# Altium schematic symbol library Connector.SchLib: 263 symbols (part 1 of 2)
Pins are listed as number, name and electrical type; pins without a type are passive.

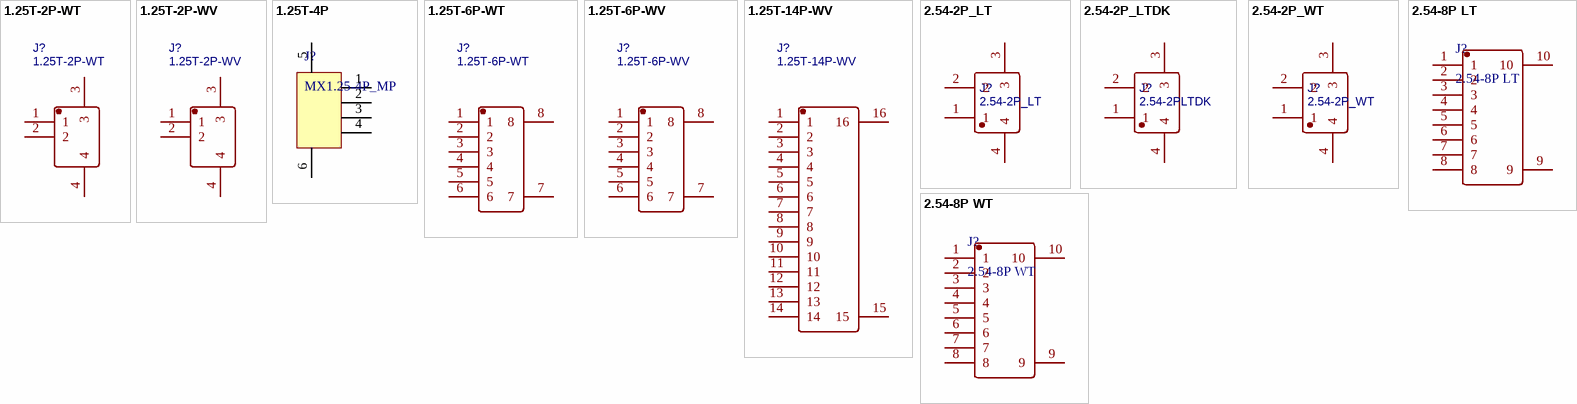
[diagram p0: symbols 1.25T-2P-WT to 2.54-8P WT]

## 1.25T-2P-WT
designator J?
1.25mm间距，卧式表贴线对板接插件; BOM_Manufacturer: HRO; BOM_Manufacturer Part: 1.25T-6P-WV; Contributor: LCSC; BOM_Supplier: LCSC; BOM_Supplier Part: C145932; BOM_JLCPCB Part Class: Extended Part; spicePre: C; spiceSymbolName: 1.25T-6P-WV
footprint 1.25T-2P-WT
pins: 1, 2, 3, 4

## 1.25T-2P-WV
designator J?
1.25mm间距，立式表贴线对板接插件; BOM_Manufacturer: HRO; BOM_Manufacturer Part: 1.25T-6P-WV; Contributor: LCSC; BOM_Supplier: LCSC; BOM_Supplier Part: C145932; BOM_JLCPCB Part Class: Extended Part; spicePre: C; spiceSymbolName: 1.25T-6P-WV
footprint CONN-SMD_2P-1.25T-2P-WV
pins: 1, 2, 3, 4

## 1.25T-4P
designator J?, comment MX1.25-4P_MP
1.25mm间距，立式表贴线对板接插件
footprint CONN-SMD_4P-P1.25_1.25T-4P
pins: 1, 2, 3, 4, 5, 6

## 1.25T-6P-WT
designator J?
1.25mm间距，卧式表贴线对板接插件; BOM_Manufacturer: HRO; BOM_Manufacturer Part: 1.25T-6P-WV; Contributor: LCSC; BOM_Supplier: LCSC; BOM_Supplier Part: C145932; BOM_JLCPCB Part Class: Extended Part; spicePre: C; spiceSymbolName: 1.25T-6P-WV
footprint 1.25T-6P-WT
pins: 1, 2, 3, 4, 5, 6, 7, 8

## 1.25T-6P-WV
designator J?
1.25mm间距，立式表贴线对板接插件; BOM_Manufacturer: HRO; Contributor: LCSC; BOM_Supplier: LCSC; BOM_Manufacturer Part: 1.25T-6P-WV; BOM_Supplier Part: C145932; BOM_JLCPCB Part Class: Extended Part; spicePre: C; spiceSymbolName: 1.25T-6P-WV
footprint 1.25T-6P-WV
pins: 1, 2, 3, 4, 5, 6, 7, 8

## 1.25T-14P-WV
designator J?
1.25mm间距，14P，立式表贴线对板接插件; BOM_Manufacturer: HRO; BOM_Manufacturer Part: 1.25T-6P-WV; Contributor: LCSC; BOM_Supplier: LCSC; BOM_Supplier Part: C145932; BOM_JLCPCB Part Class: Extended Part; spicePre: C; spiceSymbolName: 1.25T-6P-WV
footprint 1.25T-14P-WV
pins: 1, 2, 3, 4, 5, 6, 7, 8, 9, 10, 11, 12, 13, 14, 15, 16

## 2.54-2P_LT
designator J?
2.54间距 2P立贴; BOM_Manufacturer: SHOU HAN(首韩); BOM_Manufacturer Part: 2.54-4PLT; Contributor: lcsc; BOM_Supplier: LCSC; BOM_Supplier Part: C3008580; link: https://atta.szlcsc.com/upload/public/pdf/source/20220427/B27E823FA990A8FF87420A79D8BE2F8E.pdf; BOM_JLCPCB Part Class: Extended Part; spicePre: U; spiceSymbolName: 2.54-4PLT
footprint CONN-SMD_2.54-2PLT
pins: 1, 2, 3, 4

## 2.54-2P_LTDK
designator J?, comment 2.54-2PLTDK
2.54间距 2P立贴带扣; BOM_Manufacturer: SHOU HAN(首韩); BOM_Manufacturer Part: 2.54-4PLT; Contributor: lcsc; BOM_Supplier: LCSC; BOM_Supplier Part: C3008580; link: https://atta.szlcsc.com/upload/public/pdf/source/20220427/B27E823FA990A8FF87420A79D8BE2F8E.pdf; BOM_JLCPCB Part Class: Extended Part; spicePre: U; spiceSymbolName: 2.54-4PLT
footprint CONN-SMD_2.54-2PLTDK
pins: 1, 2, 3, 4

## 2.54-2P_WT
designator J?
2.54间距 2P卧贴
footprint CONN-SMD_2P-P2.50_BX-XH2.54-2PWT
pins: 1, 2, 3, 4

## 2.54-8P LT
designator J?
2.54间距 8P立贴
footprint CONN-SMD_8P-P2.50_2.54-8P-LT
pins: 1, 2, 3, 4, 5, 6, 7, 8, 9, 10

## 2.54-8P WT
designator J?
2.54间距 8P卧贴
footprint CONN-SMD_8P-P2.50_2.54-8P-WT
pins: 1, 2, 3, 4, 5, 6, 7, 8, 9, 10

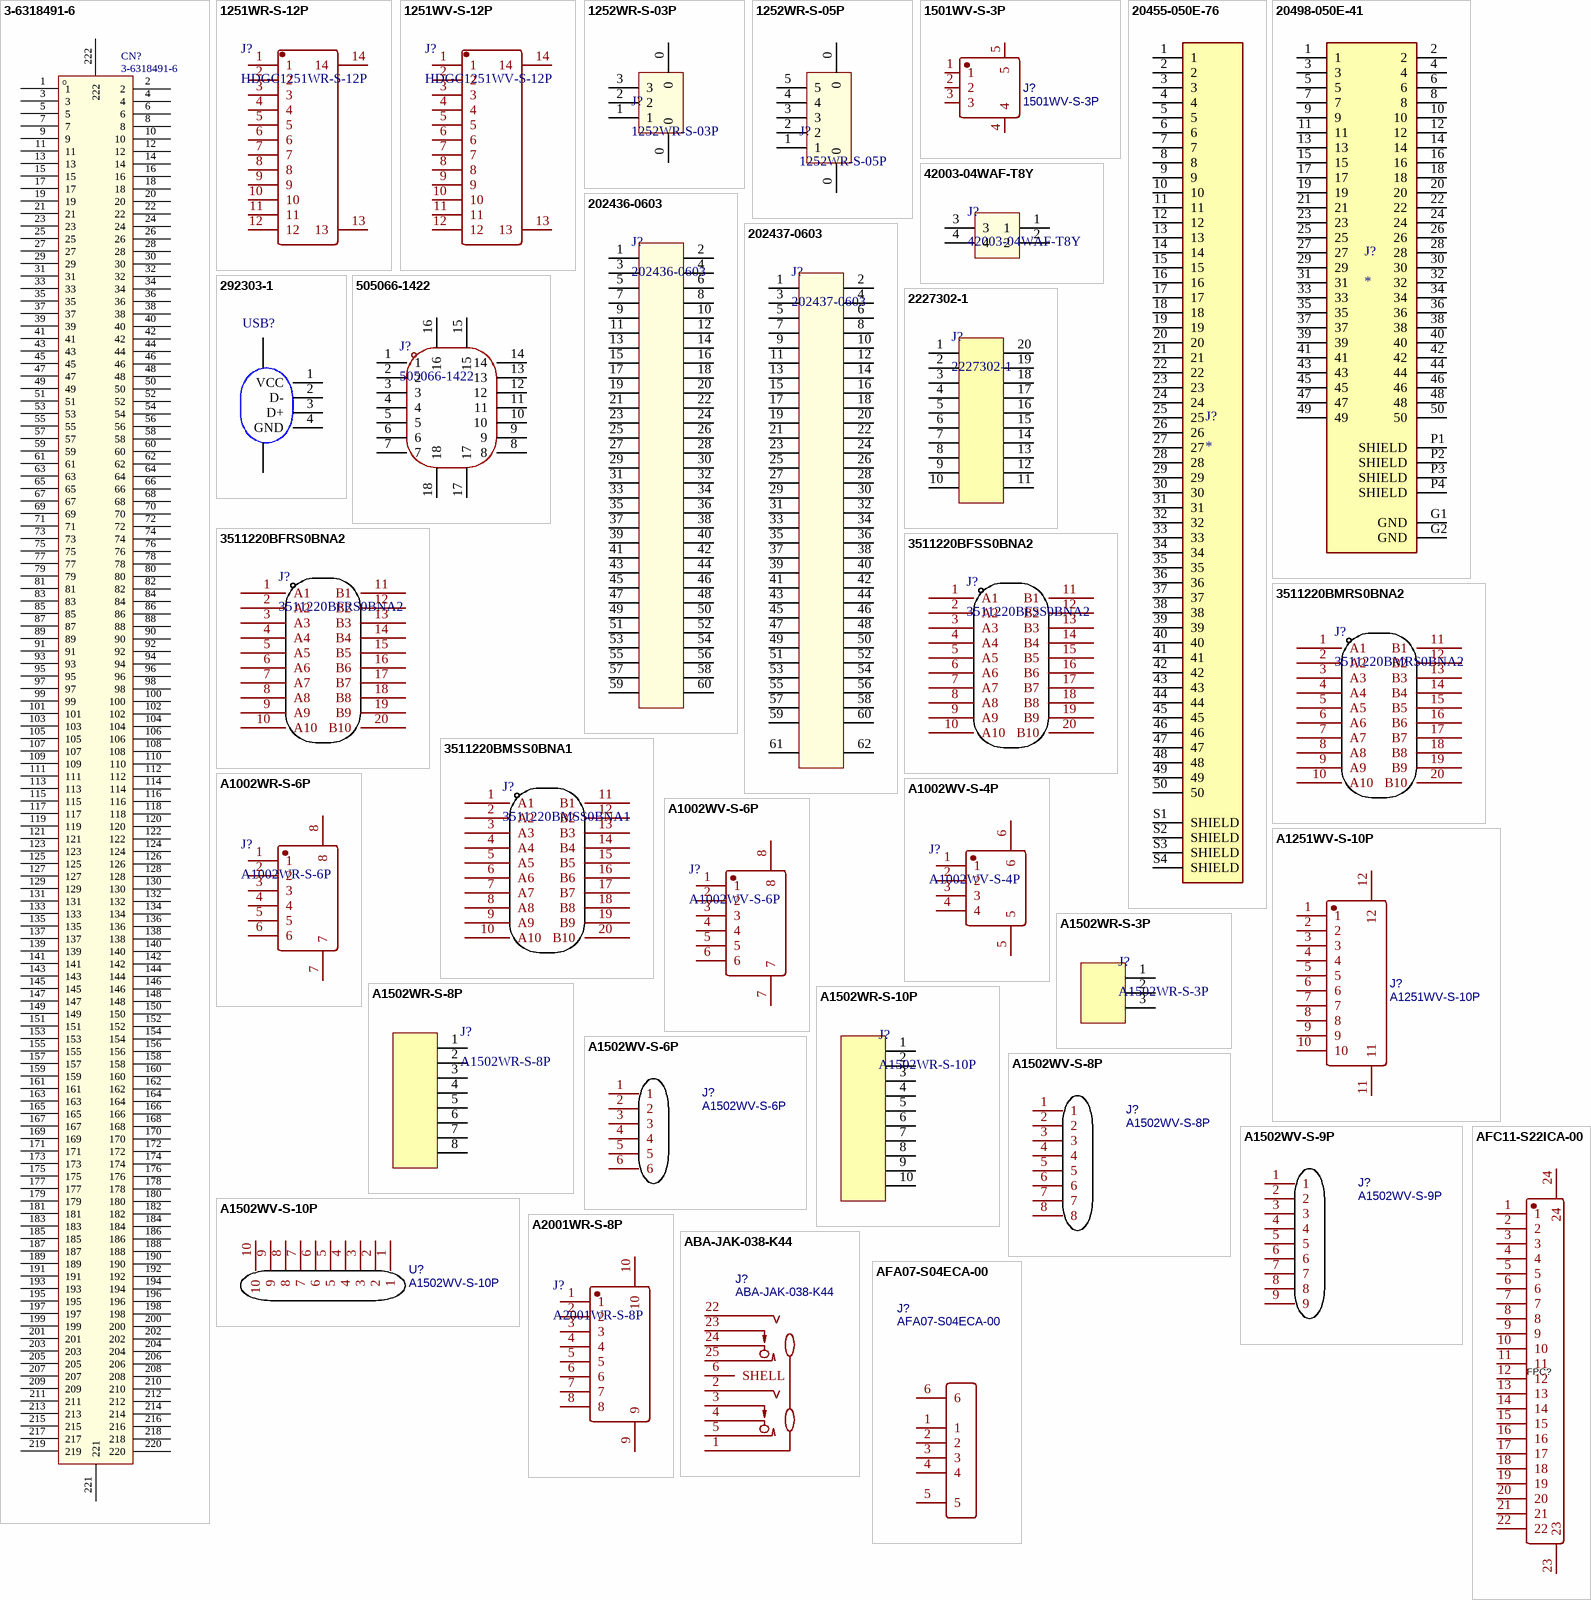
[diagram p1: symbols 3-6318491-6 to AFC11-S22ICA-00]

## 3-6318491-6
designator CN?
Manufacturer: TE Connectivity(美国泰科); Add into BOM: yes; Pitch: 0.5mm; Name: 3-6318491-6; Symbol: 3-6318491-6; Device: 3-6318491-6; LCSC Part Name: 3-6318491-6; Supplier Part: C428489; Manufacturer Part: 3-6318491-6; Supplier Footprint: SMD,P=0.5mm; JLCPCB Part Class: Extended Part; Datasheet: https://atta.szlcsc.com/upload/public/pdf/source/20200730/C428489_E1E192C6BA88B054B6CC85516ABA3330.pdf; Supplier: LCSC; Convert to PCB: yes; Number of Pins: 220; Mounting Style: 立贴
footprint CONN-SMD_3-6318491-6
3D model CONN-SMD_3-6318491-6
pins: 1, 2, 3, 4, 5, 6, 7, 8, 9, 10, 11, 12, 13, 14, 15, 16, 17, 18, 19, 20, 21, 22, 23, 24, 25, 26, 27, 28, 29, 30, 31, 32, 33, 34, 35, 36, 37, 38, 39, 40, 41, 42, 43, 44, 45, 46, 47, 48, 49, 50, 51, 52, 53, 54, 55, 56, 57, 58, 59, 60, 61, 62, 63, 64, 65, 66, 67, 68, 69, 70, 71, 72, 73, 74, 75, 76, 77, 78, 79, 80, 81, 82, 83, 84, 85, 86, 87, 88, 89, 90, 91, 92, 93, 94, 95, 96, 97, 98, 99, 100, 101, 102, 103, 104, 105, 106, 107, 108, 109, 110, 111, 112, 113, 114, 115, 116, 117, 118, 119, 120, 121, 122, 123, 124, 125, 126, 127, 128, 129, 130, 131, 132, 133, 134, 135, 136, 137, 138, 139, 140, 141, 142, 143, 144, 145, 146, 147, 148, 149, 150, 151, 152, 153, 154, 155, 156, 157, 158, 159, 160, 161, 162, 163, 164, 165, 166, 167, 168, 169, 170, 171, 172, 173, 174, 175, 176, 177, 178, 179, 180, 181, 182, 183, 184, 185, 186, 187, 188, 189, 190, 191, 192, 193, 194, 195, 196, 197, 198, 199, 200, 201, 202, 203, 204, 205, 206, 207, 208, 209, 210, 211, 212, 213, 214, 215, 216, 217, 218, 219, 220, 221, 222

## 1251WR-S-12P
designator J?, comment HDGC1251WR-S-12P
MX1.25针座卧贴 12P
footprint CONN-SMD_12P-P1.25_HDGC_HDGC1251WR-S-12P
pins: 1, 2, 3, 4, 5, 6, 7, 8, 9, 10, 11, 12, 13, 14

## 1251WV-S-12P
designator J?, comment HDGC1251WV-S-12P
MX1.25针座立贴 12P
footprint CONN-SMD_12P-P1.25_HDGC_HDGC1251WV-S-12P
pins: 1, 2, 3, 4, 5, 6, 7, 8, 9, 10, 11, 12, 13, 14

## 1252WR-S-03P
designator J?
1.25mm W2B 3P
footprint 1252WR-S-03P
pins: 0, 0, 1, 2, 3

## 1252WR-S-05P
designator J?
1.25mm W2B 5P
footprint 1252WR-S-05P
pins: 0, 0, 1, 2, 3, 4, 5

## 1501WV-S-3P
designator J?
立贴1.5mm带固定-3P; BOM_Manufacturer: Changjiang Connectors; BOM_Manufacturer Part: A1501WV-S-3P; Contributor: LCSC; BOM_Supplier: LCSC; BOM_Supplier Part: C225161; BOM_JLCPCB Part Class: Extended Part; spicePre: C; spiceSymbolName: A1501WV-S-3P
footprint CONN-SMD_A1501WV-S-3P
pins: 1, 2, 3, 4, 5

## 20455-050E-76
designator J?
N/A; MP: 20455-050E-76; Package: None; Price: None; Value: *; Availability: Unavailable
footprint IPEX_20455-050E-76
pins: 1, 2, 3, 4, 5, 6, 7, 8, 9, 10, 11, 12, 13, 14, 15, 16, 17, 18, 19, 20, 21, 22, 23, 24, 25, 26, 27, 28, 29, 30, 31, 32, 33, 34, 35, 36, 37, 38, 39, 40, 41, 42, 43, 44, 45, 46, 47, 48, 49, 50, S1 SHIELD, S2 SHIELD, S3 SHIELD, S4 SHIELD

## 20498-050E-41
designator J?
CABLINE-UA II_50_RECE; MP: 20498-050E-41; Package: None; Price: None; Value: *; Availability: Unavailable
footprint I-PEX_20498-050E-41
pins: 1, 2, 3, 4, 5, 6, 7, 8, 9, 10, 11, 12, 13, 14, 15, 16, 17, 18, 19, 20, 21, 22, 23, 24, 25, 26, 27, 28, 29, 30, 31, 32, 33, 34, 35, 36, 37, 38, 39, 40, 41, 42, 43, 44, 45, 46, 47, 48, 49, 50, G1 GND, G2 GND, P1 SHIELD, P2 SHIELD, P3 SHIELD, P4 SHIELD

## 42003-04WAF-T8Y
designator J?
footprint CONN-TH_4P-P4.20-S5.50_L12.8-W9.6
pins: 1, 2, 3, 4

## 202436-0603
designator J?
0.35mm 60P MOLEX母座
footprint 202436-0603
pins: 1, 2, 3, 4, 5, 6, 7, 8, 9, 10, 11, 12, 13, 14, 15, 16, 17, 18, 19, 20, 21, 22, 23, 24, 25, 26, 27, 28, 29, 30, 31, 32, 33, 34, 35, 36, 37, 38, 39, 40, 41, 42, 43, 44, 45, 46, 47, 48, 49, 50, 51, 52, 53, 54, 55, 56, 57, 58, 59, 60

## 202437-0603
designator J?
0.35mm 60P MOLEX公座
footprint 202437-0603
pins: 1, 2, 3, 4, 5, 6, 7, 8, 9, 10, 11, 12, 13, 14, 15, 16, 17, 18, 19, 20, 21, 22, 23, 24, 25, 26, 27, 28, 29, 30, 31, 32, 33, 34, 35, 36, 37, 38, 39, 40, 41, 42, 43, 44, 45, 46, 47, 48, 49, 50, 51, 52, 53, 54, 55, 56, 57, 58, 59, 60, 61, 62

## 292303-1
designator USB?  (value not drawn)
Manufacturer: TE Connectivity(美国泰科); Add into BOM: yes; Connector Type: Type-A; Gender: 母座; Number of Contacts: 4; Number of Ports: 1; Symbol: 292303-1; Device: 292303-1; LCSC Part Name: Type-A 母座; Supplier Part: C86461; Manufacturer Part: 292303-1; Supplier Footprint: 插件; JLCPCB Part Class: Extended Part; Datasheet: https://atta.szlcsc.com/upload/public/pdf/source/20171106/C86461_15099694096011094005.pdf; Supplier: LCSC; Convert to PCB: yes; Standard: USB 2.0
footprint USB-A-TH_USB-302-T
3D model USB-A-TH_USB-A-F-90
pins: 1 VCC, 2 D-, 3 D+, 4 GND, 5, 6

## 505066-1422
designator J?
footprint CONN-SMD_5050661422
pins: 1, 2, 3, 4, 5, 6, 7, 8, 9, 10, 11, 12, 13, 14, 15, 16, 17, 18

## 2227302-1
designator J?
小型可插拔光模块（SFP）、笼子，工作温度范围 -55 – 85 °C
footprint TH_HC-SFP-01L
pins: 1, 2, 3, 4, 5, 6, 7, 8, 9, 10, 11, 12, 13, 14, 15, 16, 17, 18, 19, 20

## 3511220BFRS0BNA2
designator J?
P2.54mm 2x10P板对板连接器 弯插母座
footprint CONN-TH_3511220BFRS0BNA2
pins: 1 A1, 2 A2, 3 A3, 4 A4, 5 A5, 6 A6, 7 A7, 8 A8, 9 A9, 10 A10, 11 B1, 12 B2, 13 B3, 14 B4, 15 B5, 16 B6, 17 B7, 18 B8, 19 B9, 20 B10

## 3511220BFSS0BNA2
designator J?
P2.54mm 2x10P板对板连接器 立插母座
footprint CONN-TH_3511220BFSS0BNA2
pins: 1 A1, 2 A2, 3 A3, 4 A4, 5 A5, 6 A6, 7 A7, 8 A8, 9 A9, 10 A10, 11 B1, 12 B2, 13 B3, 14 B4, 15 B5, 16 B6, 17 B7, 18 B8, 19 B9, 20 B10

## 3511220BMRS0BNA2
designator J?
P2.54mm 2x10P板对板连接器 弯插针座
footprint CONN-TH_3511220BMRS0BNA2
pins: 1 A1, 2 A2, 3 A3, 4 A4, 5 A5, 6 A6, 7 A7, 8 A8, 9 A9, 10 A10, 11 B1, 12 B2, 13 B3, 14 B4, 15 B5, 16 B6, 17 B7, 18 B8, 19 B9, 20 B10

## 3511220BMSS0BNA1
designator J?
P2.54mm 2x10P板对板连接器 立插针座
footprint CONN-TH_3511220BMSS0BNA1
pins: 1 A1, 2 A2, 3 A3, 4 A4, 5 A5, 6 A6, 7 A7, 8 A8, 9 A9, 10 A10, 11 B1, 12 B2, 13 B3, 14 B4, 15 B5, 16 B6, 17 B7, 18 B8, 19 B9, 20 B10

## A1002WR-S-6P
designator J?
SH 1mm 1x6P
footprint CONN-SMD_A1002WR-S-6P
pins: 1, 2, 3, 4, 5, 6, 7, 8

## A1002WV-S-4P
designator J?
立贴 1mm 1x4P
footprint CONN-SMD_A1002WV-S-4P
pins: 1, 2, 3, 4, 5, 6

## A1002WV-S-6P
designator J?
立贴 1mm 1x6P
footprint CONN-SMD_A1002WV-S-6P
pins: 1, 2, 3, 4, 5, 6, 7, 8

## A1251WV-S-10P
designator J?
立贴1.25mm 10P; BOM_Manufacturer: Changjiang Connectors; Contributor: LCSC; BOM_Supplier: LCSC; BOM_Supplier Part: C273002; BOM_Manufacturer Part: A1251WV-S-10P; BOM_JLCPCB Part Class: Extended Part; spicePre: U; spiceSymbolName: A1251WV-S-10P
footprint CONN-SMD_10P-P1.25_A1251WV-S-10P
pins: 1, 2, 3, 4, 5, 6, 7, 8, 9, 10, 11, 12

## A1502WR-S-3P
designator J?
侧插MX1.5mm 3p
footprint A1502WR-S-3P
pins: 1, 2, 3

## A1502WR-S-8P
designator J?
侧插 MX1.5mm 8P
footprint CONN-SMD_A1502WR-S-8P
pins: 1, 2, 3, 4, 5, 6, 7, 8

## A1502WR-S-10P
designator J?
侧插MX1.5mm 10p
footprint A1502WR-S-10P
pins: 1, 2, 3, 4, 5, 6, 7, 8, 9, 10

## A1502WV-S-6P
designator J?
1.5mm 6P 立贴; BOM_Manufacturer: Changjiang Connectors; BOM_Manufacturer Part: A1502WV-S-10P; Contributor: LCSC; BOM_Supplier: LCSC; BOM_Supplier Part: C273031; BOM_JLCPCB Part Class: Extended Part; spicePre: U; spiceSymbolName: A1502WV-S-10P
footprint A1502WV-S-6P
pins: 1, 2, 3, 4, 5, 6

## A1502WV-S-8P
designator J?
1.5mm 8P 立贴
footprint A1502WV-S-8P (Footprint not found)
pins: 1, 2, 3, 4, 5, 6, 7, 8

## A1502WV-S-9P
designator J?
1.5mm 9P 立贴; BOM_Manufacturer: Changjiang Connectors; BOM_Manufacturer Part: A1502WV-S-10P; Contributor: LCSC; BOM_Supplier: LCSC; BOM_Supplier Part: C273031; BOM_JLCPCB Part Class: Extended Part; spicePre: U; spiceSymbolName: A1502WV-S-10P
footprint A1502WV-S-9P (Footprint not found)
pins: 1, 2, 3, 4, 5, 6, 7, 8, 9

## A1502WV-S-10P
designator U?
1.5mm 10P 立贴; BOM_Manufacturer: Changjiang Connectors; Contributor: LCSC; BOM_Supplier: LCSC; BOM_Supplier Part: C273031; BOM_Manufacturer Part: A1502WV-S-10P; BOM_JLCPCB Part Class: Extended Part; spicePre: U; spiceSymbolName: A1502WV-S-10P
footprint A1502WV-S-10P
pins: 1, 2, 3, 4, 5, 6, 7, 8, 9, 10

## A2001WR-S-8P
designator J?
2.0mm 8P 卧贴
footprint A2001WR-S-8P
pins: 1, 2, 3, 4, 5, 6, 7, 8, 9, 10

## ABA-JAK-038-K44
designator J?
3.5mm 音频插座; BOM_Manufacturer: LOTES; Contributor: LCSC; BOM_Supplier: LCSC; BOM_Supplier Part: C962119; BOM_Manufacturer Part: ABA-JAK-038-K44; BOM_JLCPCB Part Class: Extended Part; spicePre: B; spiceSymbolName: ABA-JAK-038-K44
footprint AUDIO-TH_ABA-JAK-038-K44
pins: 1, 2, 3, 4, 5, 6 SHELL, 22, 23, 24, 25

## AFA07-S04ECA-00
designator J?
BOM_Manufacturer: JUSHUO; Contributor: LCSC; BOM_Supplier: LCSC; BOM_Supplier Part: C262731; BOM_Manufacturer Part: AFA07-S04ECA-00; BOM_JLCPCB Part Class: Extended Part; spicePre: F; spiceSymbolName: AFA07-S04ECA-00
footprint FPC-SMD_4P-P1.00_AFA07-S04ECA-00
pins: 1, 2, 3, 4, 5, 6

## AFC11-S22ICA-00
designator FPC?  (value not drawn)
0.5mm 22P 立贴抽屉式 FPC座子; Manufacturer: JS(钜硕电子); Add into BOM: yes; Locking Feature: 抽屉式; Symbol: AFC11-S22ICA-00; Device: AFC11-S22ICA-00; LCSC Part Name: 间距:0.5mm P数:22P 抽屉式 单侧触点/垂直; Supplier Part: C5248019; Manufacturer Part: AFC11-S22ICA-00; Supplier Footprint: SMD,P=0.5mm; JLCPCB Part Class: Extended Part; Datasheet: https://atta.szlcsc.com/upload/public/pdf/source/20191211/C466537_F6F2472ADACFFA77E875AFE9DAB8E0AD.pdf; Supplier: LCSC; Convert to PCB: yes; Contact Type: 单侧触点/垂直; Number of Contacts: 22P; Pitch: 0.5mm; Mounting Type: 立贴; Height Above Board: 5.65mm
footprint FPC-SMD_22P-P0.50_AFC11-S22ICA-00
3D model FPC-SMD_22P-P1.00_AFC11-S22ICC-00
pins: 1, 2, 3, 4, 5, 6, 7, 8, 9, 10, 11, 12, 13, 14, 15, 16, 17, 18, 19, 20, 21, 22, 23, 24

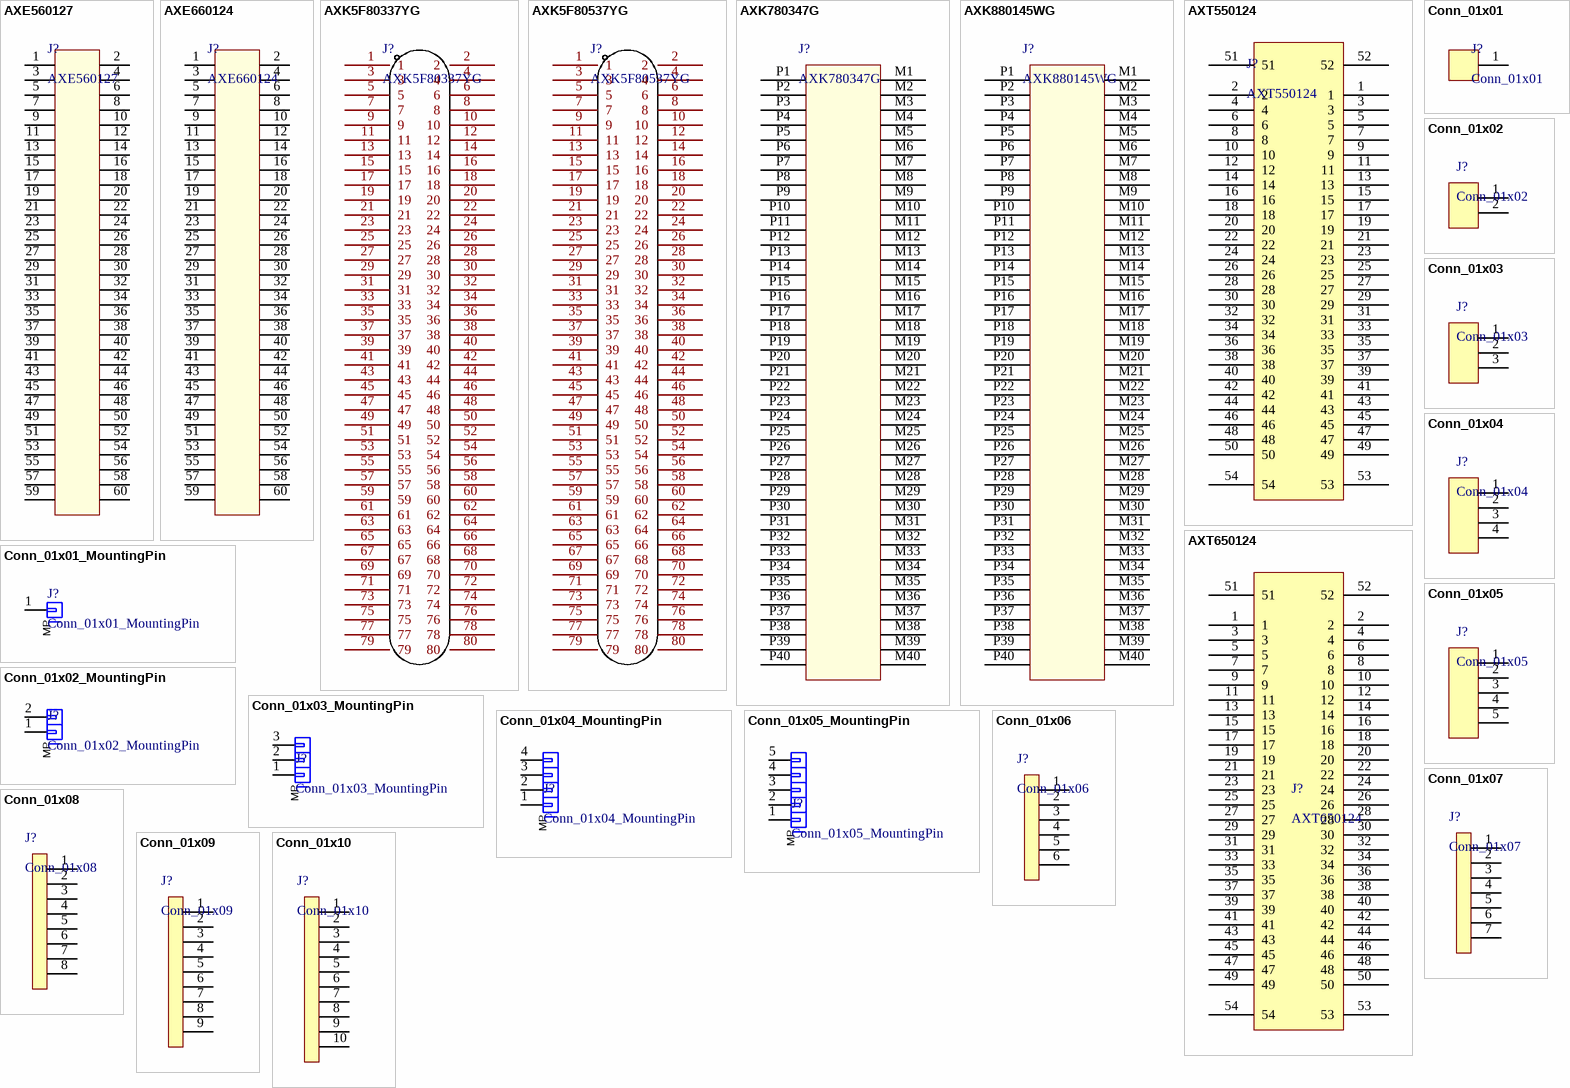
[diagram p2: symbols AXE560127 to Conn_01x10]

## AXE560127
designator J?
0.8mm 60P socket 松下连接器母座
footprint AXE560127
pins: 1, 2, 3, 4, 5, 6, 7, 8, 9, 10, 11, 12, 13, 14, 15, 16, 17, 18, 19, 20, 21, 22, 23, 24, 25, 26, 27, 28, 29, 30, 31, 32, 33, 34, 35, 36, 37, 38, 39, 40, 41, 42, 43, 44, 45, 46, 47, 48, 49, 50, 51, 52, 53, 54, 55, 56, 57, 58, 59, 60

## AXE660124
designator J?
0.8mm 60P Header 松下连接器公座
pins: 1, 2, 3, 4, 5, 6, 7, 8, 9, 10, 11, 12, 13, 14, 15, 16, 17, 18, 19, 20, 21, 22, 23, 24, 25, 26, 27, 28, 29, 30, 31, 32, 33, 34, 35, 36, 37, 38, 39, 40, 41, 42, 43, 44, 45, 46, 47, 48, 49, 50, 51, 52, 53, 54, 55, 56, 57, 58, 59, 60

## AXK5F80337YG
designator J?
松下B2B连接器，高度1.5mm Socket
footprint CONN-SMD_80P-P0.50_AXK5F80337YG
pins: 1, 2, 3, 4, 5, 6, 7, 8, 9, 10, 11, 12, 13, 14, 15, 16, 17, 18, 19, 20, 21, 22, 23, 24, 25, 26, 27, 28, 29, 30, 31, 32, 33, 34, 35, 36, 37, 38, 39, 40, 41, 42, 43, 44, 45, 46, 47, 48, 49, 50, 51, 52, 53, 54, 55, 56, 57, 58, 59, 60, 61, 62, 63, 64, 65, 66, 67, 68, 69, 70, 71, 72, 73, 74, 75, 76, 77, 78, 79, 80

## AXK5F80537YG
designator J?
松下B2B连接器，高度2.0/2.5mm Socket
footprint CONN-SMD_80P-P0.50_AXK5F80537YG
pins: 1, 2, 3, 4, 5, 6, 7, 8, 9, 10, 11, 12, 13, 14, 15, 16, 17, 18, 19, 20, 21, 22, 23, 24, 25, 26, 27, 28, 29, 30, 31, 32, 33, 34, 35, 36, 37, 38, 39, 40, 41, 42, 43, 44, 45, 46, 47, 48, 49, 50, 51, 52, 53, 54, 55, 56, 57, 58, 59, 60, 61, 62, 63, 64, 65, 66, 67, 68, 69, 70, 71, 72, 73, 74, 75, 76, 77, 78, 79, 80

## AXK780347G
designator J?
Panasonic 0.4mm pitch b2b connector, socket without soldering terminal
footprint AXK780347G
pins: M1, M2, M3, M4, M5, M6, M7, M8, M9, M10, M11, M12, M13, M14, M15, M16, M17, M18, M19, M20, M21, M22, M23, M24, M25, M26, M27, M28, M29, M30, M31, M32, M33, M34, M35, M36, M37, M38, M39, M40, P1, P2, P3, P4, P5, P6, P7, P8, P9, P10, P11, P12, P13, P14, P15, P16, P17, P18, P19, P20, P21, P22, P23, P24, P25, P26, P27, P28, P29, P30, P31, P32, P33, P34, P35, P36, P37, P38, P39, P40

## AXK880145WG
designator J?
Panasonic 0.4mm pitch b2b connector, header without soldering terminal
footprint AXK880145WG
pins: M1, M2, M3, M4, M5, M6, M7, M8, M9, M10, M11, M12, M13, M14, M15, M16, M17, M18, M19, M20, M21, M22, M23, M24, M25, M26, M27, M28, M29, M30, M31, M32, M33, M34, M35, M36, M37, M38, M39, M40, P1, P2, P3, P4, P5, P6, P7, P8, P9, P10, P11, P12, P13, P14, P15, P16, P17, P18, P19, P20, P21, P22, P23, P24, P25, P26, P27, P28, P29, P30, P31, P32, P33, P34, P35, P36, P37, P38, P39, P40

## AXT550124
designator J?
footprint AXT550124socket
pins: 1, 2, 3, 4, 5, 6, 7, 8, 9, 10, 11, 12, 13, 14, 15, 16, 17, 18, 19, 20, 21, 22, 23, 24, 25, 26, 27, 28, 29, 30, 31, 32, 33, 34, 35, 36, 37, 38, 39, 40, 41, 42, 43, 44, 45, 46, 47, 48, 49, 50, 51, 52, 53, 54

## AXT650124
designator J?
footprint AXT650124
pins: 1, 2, 3, 4, 5, 6, 7, 8, 9, 10, 11, 12, 13, 14, 15, 16, 17, 18, 19, 20, 21, 22, 23, 24, 25, 26, 27, 28, 29, 30, 31, 32, 33, 34, 35, 36, 37, 38, 39, 40, 41, 42, 43, 44, 45, 46, 47, 48, 49, 50, 51, 52, 53, 54

## Conn_01x01
designator J?
footprint PinHeader_1x01_P2.54mm_Vertical
footprint PinStampDual_1x01_P1.27mm
footprint PinStamp_1x01_P1.27mm
pins: 1

## Conn_01x01_MountingPin
designator J?
pins: 1
text: MP

## Conn_01x02
designator J?
footprint PinHeader_1x02_P2.54mm_Vertical
pins: 1, 2

## Conn_01x02_MountingPin
designator J?
pins: 1, 2
text: MP

## Conn_01x03
designator J?
footprint PinHeader_1x03_P2.54mm_Vertical
pins: 1, 2, 3

## Conn_01x03_MountingPin
designator J?
pins: 1, 2, 3
text: MP

## Conn_01x04
designator J?
footprint PinHeader_1x04_P2.54mm_Vertical
pins: 1, 2, 3, 4

## Conn_01x04_MountingPin
designator J?
pins: 1, 2, 3, 4
text: MP

## Conn_01x05
designator J?
footprint PinHeader_1x05_P2.54mm_Vertical
footprint PinSocket_1x05_P2.54mm_Vertical
pins: 1, 2, 3, 4, 5

## Conn_01x05_MountingPin
designator J?
pins: 1, 2, 3, 4, 5
text: MP

## Conn_01x06
designator J?
footprint PinHeader_1x06_P2.54mm_Vertical
pins: 1, 2, 3, 4, 5, 6

## Conn_01x07
designator J?
footprint PinHeader_1x07_P2.54mm_Vertical
footprint PinSocket_1x07_P2.54mm_Vertical
pins: 1, 2, 3, 4, 5, 6, 7

## Conn_01x08
designator J?
footprint PinHeader_1x08_P2.54mm_Vertical
pins: 1, 2, 3, 4, 5, 6, 7, 8

## Conn_01x09
designator J?
footprint PinStamp_1x09_P1.27mm
footprint PinStampDual_1x09_P1.27mm
footprint PinHeader_1x09_P2.54mm_Vertical
pins: 1, 2, 3, 4, 5, 6, 7, 8, 9

## Conn_01x10
designator J?
footprint PinHeader_1x10_P2.54mm_Vertical
pins: 1, 2, 3, 4, 5, 6, 7, 8, 9, 10

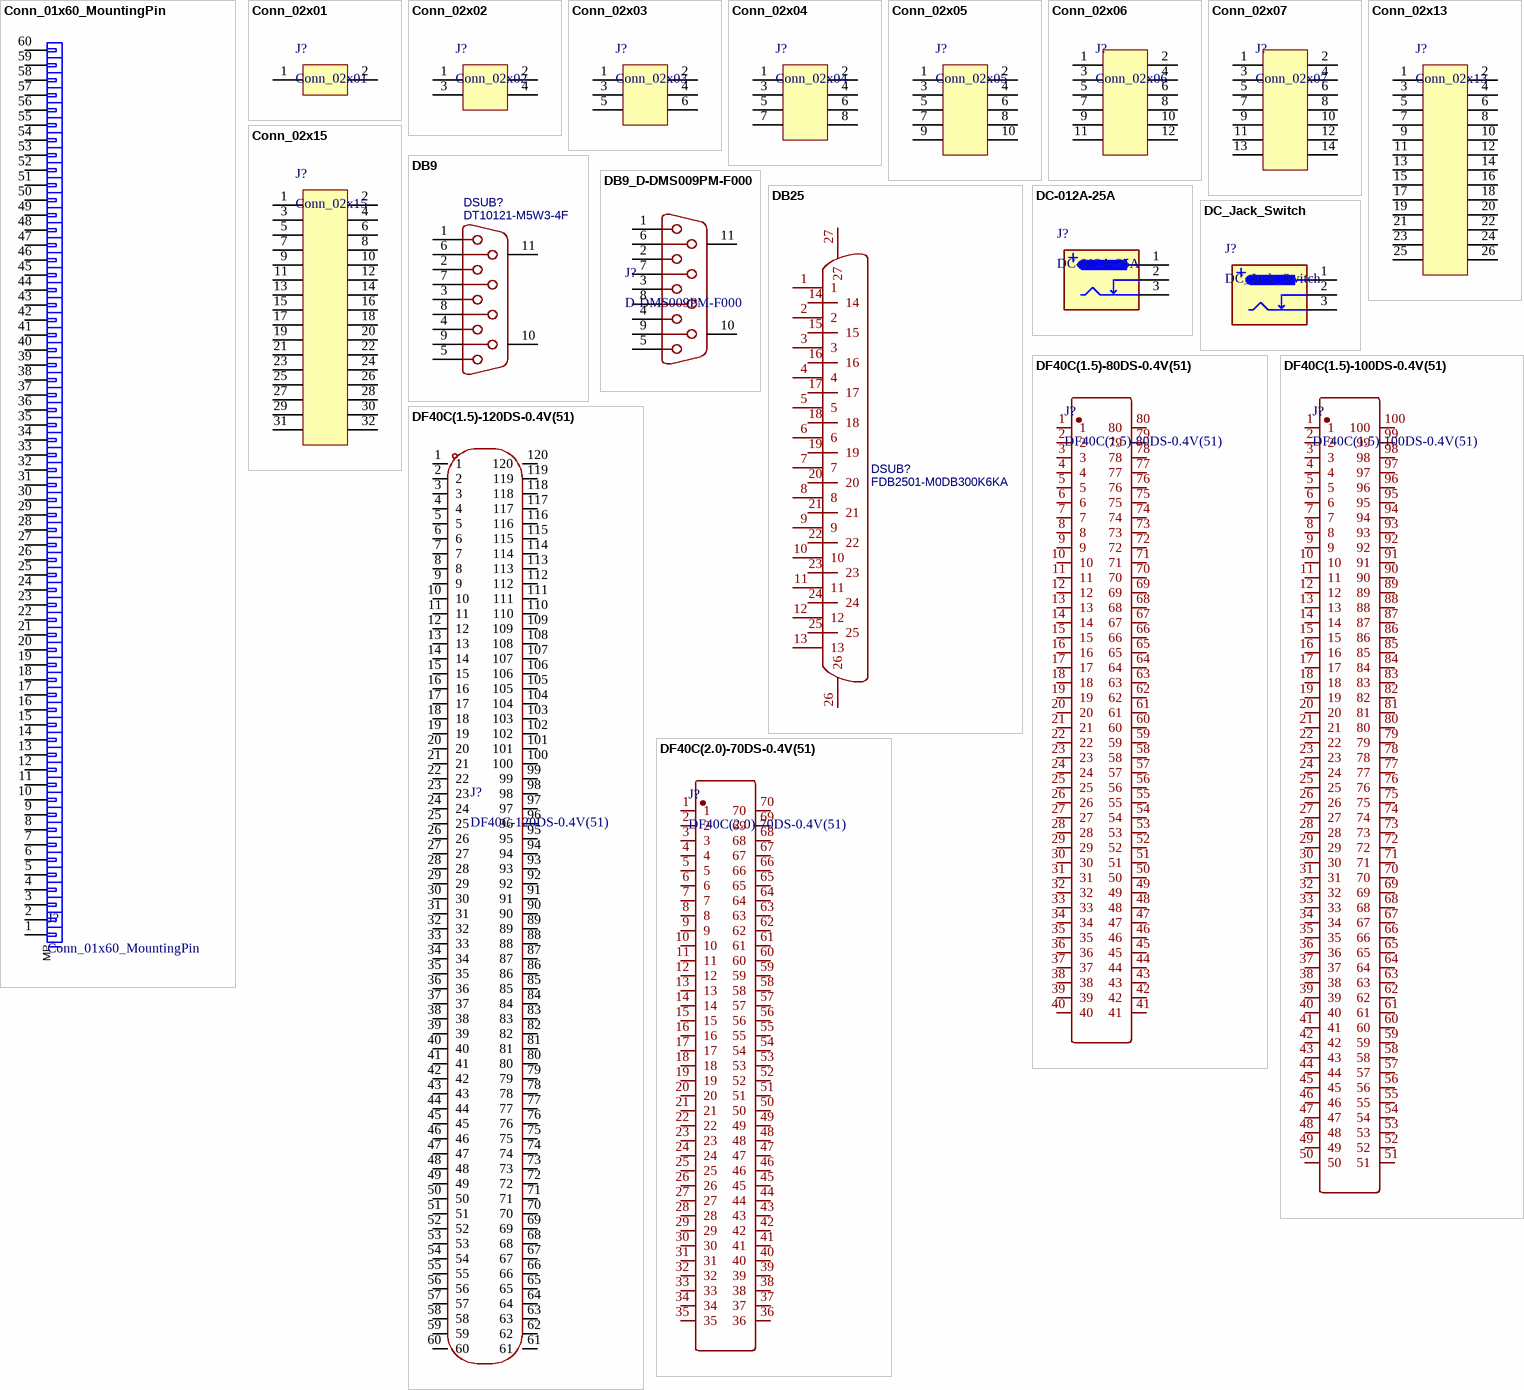
[diagram p3: symbols Conn_01x60_MountingPin to DF40C(2.0)-70DS-0.4V(51)]

## Conn_01x60_MountingPin
designator J?
pins: 1, 2, 3, 4, 5, 6, 7, 8, 9, 10, 11, 12, 13, 14, 15, 16, 17, 18, 19, 20, 21, 22, 23, 24, 25, 26, 27, 28, 29, 30, 31, 32, 33, 34, 35, 36, 37, 38, 39, 40, 41, 42, 43, 44, 45, 46, 47, 48, 49, 50, 51, 52, 53, 54, 55, 56, 57, 58, 59, 60
text: MP

## Conn_02x01
designator J?
footprint PinHeader_2x01_P2.54mm_Vertical
pins: 1, 2

## Conn_02x02
designator J?
footprint PinHeader_2x02_P2.54mm_Vertical
pins: 1, 2, 3, 4

## Conn_02x03
designator J?
footprint PinHeader_2x03_P2.54mm_Vertical
footprint PinHeader_2x03_P2mm_Vertical
pins: 1, 2, 3, 4, 5, 6

## Conn_02x04
designator J?
footprint PinHeader_2x04_P2.54mm_Vertical
pins: 1, 2, 3, 4, 5, 6, 7, 8

## Conn_02x05
designator J?
footprint PinHeader_2x05_P2.54mm_Vertical
pins: 1, 2, 3, 4, 5, 6, 7, 8, 9, 10

## Conn_02x06
designator J?
footprint PinHeader_2x06_P2.54mm_Vertical
pins: 1, 2, 3, 4, 5, 6, 7, 8, 9, 10, 11, 12

## Conn_02x07
designator J?
footprint PinHeader_2x07_P2.54mm_Vertical
pins: 1, 2, 3, 4, 5, 6, 7, 8, 9, 10, 11, 12, 13, 14

## Conn_02x13
designator J?
footprint HDR-TH_26P-P2.54-H-F-R2-C13-W8.5
pins: 1, 2, 3, 4, 5, 6, 7, 8, 9, 10, 11, 12, 13, 14, 15, 16, 17, 18, 19, 20, 21, 22, 23, 24, 25, 26

## Conn_02x15
designator J?
pins: 1, 2, 3, 4, 5, 6, 7, 8, 9, 10, 11, 12, 13, 14, 15, 16, 17, 18, 19, 20, 21, 22, 23, 24, 25, 26, 27, 28, 29, 30, 31, 32

## DB9
designator DSUB?, comment DT10121-M5W3-4F
BOM_Manufacturer: FOXCONN(富士康); Contributor: LCSC; BOM_Supplier: LCSC; BOM_Supplier Part: C2760978; BOM_Manufacturer Part: DT10121-M5W3-4F; spicePre: D; spiceSymbolName: DT10121-M5W3-4F
footprint DSUB-TH_DT10121-M5W3-4F
pins: 1, 2, 3, 4, 5, 6, 7, 8, 9, 10 MH1, 11 MH2

## DB9_D-DMS009PM-F000
designator J?, comment D-DMS009PM-F000
footprint DSUB-TH_DMS009PM000XH00
pins: 1, 2, 3, 4, 5, 6, 7, 8, 9, 10 MH1, 11 MH2

## DB25
designator DSUB?, comment FDB2501-M0DB300K6KA
BOM_Manufacturer: TXGA(特思嘉); Contributor: LCSC; BOM_Supplier: LCSC; BOM_Supplier Part: C2834344; BOM_Manufacturer Part: FDB2501-M0DB300K6KA; spicePre: D; spiceSymbolName: FDB2501-M0DB300K6KA
footprint DB25-TH_FDB2501-M0DB300K6KA
pins: 1, 2, 3, 4, 5, 6, 7, 8, 9, 10, 11, 12, 13, 14, 15, 16, 17, 18, 19, 20, 21, 22, 23, 24, 25, 26, 27

## DC-012A-25A
designator J?
DC电源插座 内径:2.5mm 外径:6.4mm 立插
footprint DC-005-2.1mm
footprint DC-IN-TH_DC-012A-25A
pins: 1, 2, 3

## DC_Jack_Switch
designator J?
DC Barrel Jack with an internal switch
footprint DC-005-2.1mm
pins: 1, 2, 3

## DF40C(1.5)-80DS-0.4V(51)
designator J?
footprint CONN-SMD_80P_P0.40_DF40C(1.5)-80DS-0.4V(51)
pins: 1, 2, 3, 4, 5, 6, 7, 8, 9, 10, 11, 12, 13, 14, 15, 16, 17, 18, 19, 20, 21, 22, 23, 24, 25, 26, 27, 28, 29, 30, 31, 32, 33, 34, 35, 36, 37, 38, 39, 40, 41, 42, 43, 44, 45, 46, 47, 48, 49, 50, 51, 52, 53, 54, 55, 56, 57, 58, 59, 60, 61, 62, 63, 64, 65, 66, 67, 68, 69, 70, 71, 72, 73, 74, 75, 76, 77, 78, 79, 80

## DF40C(1.5)-100DS-0.4V(51)
designator J?
footprint CONN-SMD_100P_P0.40_DF40C(1.5)-100DS-0.4V(51)
pins: 1, 2, 3, 4, 5, 6, 7, 8, 9, 10, 11, 12, 13, 14, 15, 16, 17, 18, 19, 20, 21, 22, 23, 24, 25, 26, 27, 28, 29, 30, 31, 32, 33, 34, 35, 36, 37, 38, 39, 40, 41, 42, 43, 44, 45, 46, 47, 48, 49, 50, 51, 52, 53, 54, 55, 56, 57, 58, 59, 60, 61, 62, 63, 64, 65, 66, 67, 68, 69, 70, 71, 72, 73, 74, 75, 76, 77, 78, 79, 80, 81, 82, 83, 84, 85, 86, 87, 88, 89, 90, 91, 92, 93, 94, 95, 96, 97, 98, 99, 100

## DF40C(1.5)-120DS-0.4V(51)
designator J?, comment DF40C-120DS-0.4V(51)
H=1.5mm
footprint CONN-SMD_120P-P0.40_DF40C-120DS-0.4V-51
pins: 1, 2, 3, 4, 5, 6, 7, 8, 9, 10, 11, 12, 13, 14, 15, 16, 17, 18, 19, 20, 21, 22, 23, 24, 25, 26, 27, 28, 29, 30, 31, 32, 33, 34, 35, 36, 37, 38, 39, 40, 41, 42, 43, 44, 45, 46, 47, 48, 49, 50, 51, 52, 53, 54, 55, 56, 57, 58, 59, 60, 61, 62, 63, 64, 65, 66, 67, 68, 69, 70, 71, 72, 73, 74, 75, 76, 77, 78, 79, 80, 81, 82, 83, 84, 85, 86, 87, 88, 89, 90, 91, 92, 93, 94, 95, 96, 97, 98, 99, 100, 101, 102, 103, 104, 105, 106, 107, 108, 109, 110, 111, 112, 113, 114, 115, 116, 117, 118, 119, 120

## DF40C(2.0)-70DS-0.4V(51)
designator J?
footprint CONN-SMD_70P_P0.40_DF40C(2.0)-70DS-0.4V(51)
pins: 1, 2, 3, 4, 5, 6, 7, 8, 9, 10, 11, 12, 13, 14, 15, 16, 17, 18, 19, 20, 21, 22, 23, 24, 25, 26, 27, 28, 29, 30, 31, 32, 33, 34, 35, 36, 37, 38, 39, 40, 41, 42, 43, 44, 45, 46, 47, 48, 49, 50, 51, 52, 53, 54, 55, 56, 57, 58, 59, 60, 61, 62, 63, 64, 65, 66, 67, 68, 69, 70

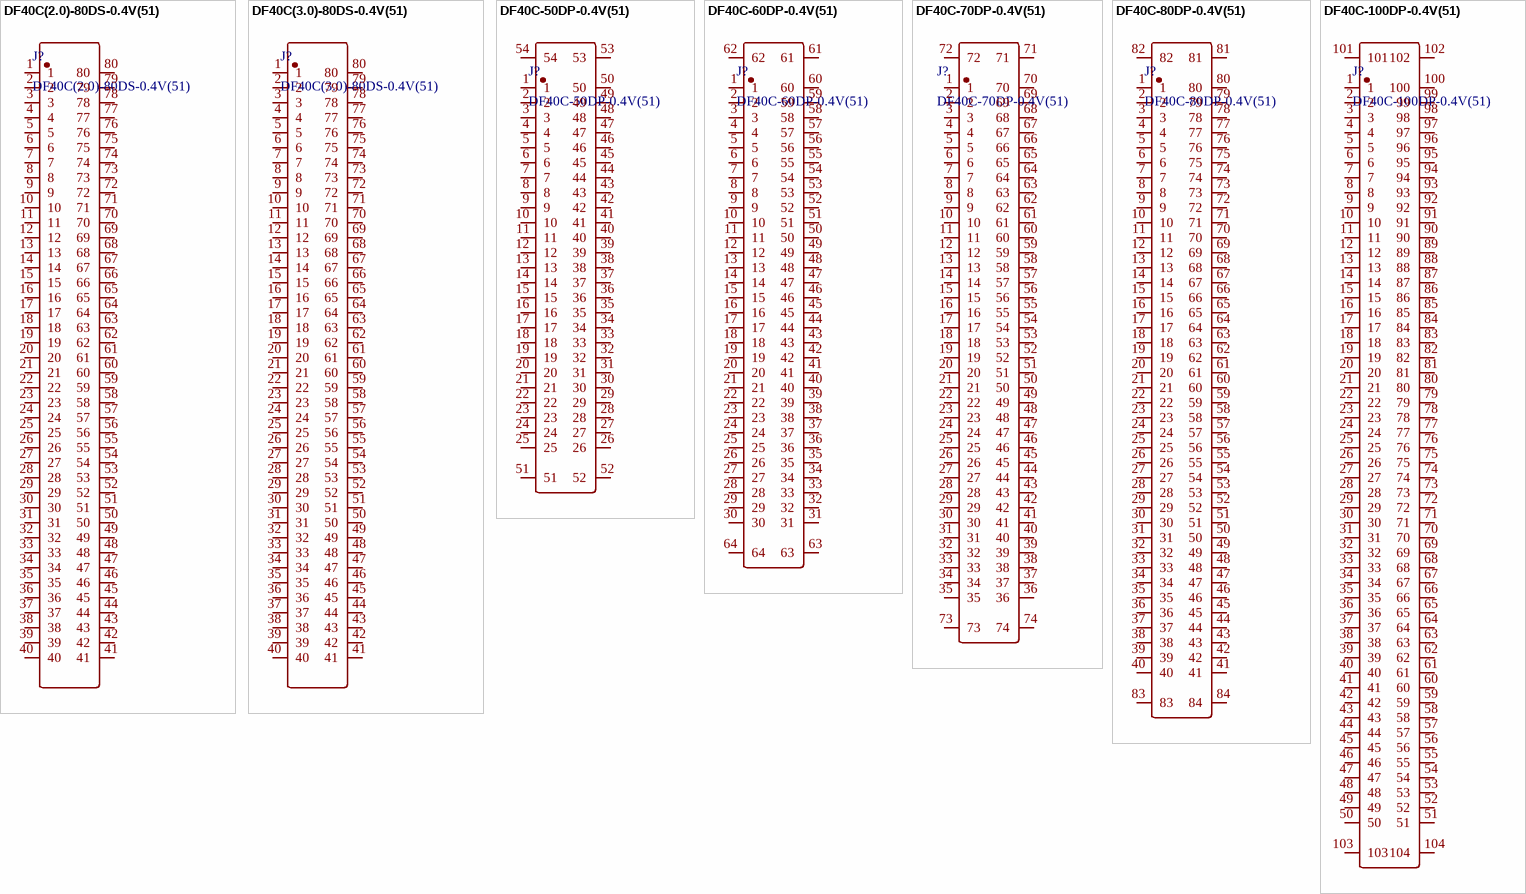
[diagram p4: symbols DF40C(2.0)-80DS-0.4V(51) to DF40C-100DP-0.4V(51)]

## DF40C(2.0)-80DS-0.4V(51)
designator J?
footprint CONN-SMD_80P_P0.40_DF40C(2.0)-80DS-0.4V(51)
pins: 1, 2, 3, 4, 5, 6, 7, 8, 9, 10, 11, 12, 13, 14, 15, 16, 17, 18, 19, 20, 21, 22, 23, 24, 25, 26, 27, 28, 29, 30, 31, 32, 33, 34, 35, 36, 37, 38, 39, 40, 41, 42, 43, 44, 45, 46, 47, 48, 49, 50, 51, 52, 53, 54, 55, 56, 57, 58, 59, 60, 61, 62, 63, 64, 65, 66, 67, 68, 69, 70, 71, 72, 73, 74, 75, 76, 77, 78, 79, 80

## DF40C(3.0)-80DS-0.4V(51)
designator J?
footprint CONN-SMD_80P_P0.40_DF40C(3.0)-80DS-0.4V(51) (Footprint not found)
pins: 1, 2, 3, 4, 5, 6, 7, 8, 9, 10, 11, 12, 13, 14, 15, 16, 17, 18, 19, 20, 21, 22, 23, 24, 25, 26, 27, 28, 29, 30, 31, 32, 33, 34, 35, 36, 37, 38, 39, 40, 41, 42, 43, 44, 45, 46, 47, 48, 49, 50, 51, 52, 53, 54, 55, 56, 57, 58, 59, 60, 61, 62, 63, 64, 65, 66, 67, 68, 69, 70, 71, 72, 73, 74, 75, 76, 77, 78, 79, 80

## DF40C-50DP-0.4V(51)
designator J?
footprint CONN-SMD_50P_P0.40_DF40C-50DP-0.4V(51)
pins: 1, 2, 3, 4, 5, 6, 7, 8, 9, 10, 11, 12, 13, 14, 15, 16, 17, 18, 19, 20, 21, 22, 23, 24, 25, 26, 27, 28, 29, 30, 31, 32, 33, 34, 35, 36, 37, 38, 39, 40, 41, 42, 43, 44, 45, 46, 47, 48, 49, 50, 51, 52, 53, 54

## DF40C-60DP-0.4V(51)
designator J?
footprint CONN-SMD_60P_P0.40_DF40C-60DP-0.4V(51)
pins: 1, 2, 3, 4, 5, 6, 7, 8, 9, 10, 11, 12, 13, 14, 15, 16, 17, 18, 19, 20, 21, 22, 23, 24, 25, 26, 27, 28, 29, 30, 31, 32, 33, 34, 35, 36, 37, 38, 39, 40, 41, 42, 43, 44, 45, 46, 47, 48, 49, 50, 51, 52, 53, 54, 55, 56, 57, 58, 59, 60, 61, 62, 63, 64

## DF40C-70DP-0.4V(51)
designator J?
footprint CONN-SMD_70P-P0.40_DF40C-70DP-0.4V(51)
pins: 1, 2, 3, 4, 5, 6, 7, 8, 9, 10, 11, 12, 13, 14, 15, 16, 17, 18, 19, 20, 21, 22, 23, 24, 25, 26, 27, 28, 29, 30, 31, 32, 33, 34, 35, 36, 37, 38, 39, 40, 41, 42, 43, 44, 45, 46, 47, 48, 49, 50, 51, 52, 53, 54, 55, 56, 57, 58, 59, 60, 61, 62, 63, 64, 65, 66, 67, 68, 69, 70, 71, 72, 73, 74

## DF40C-80DP-0.4V(51)
designator J?
footprint CONN-SMD_80P-P0.40_DF40C-80DP-0.4V(51)
pins: 1, 2, 3, 4, 5, 6, 7, 8, 9, 10, 11, 12, 13, 14, 15, 16, 17, 18, 19, 20, 21, 22, 23, 24, 25, 26, 27, 28, 29, 30, 31, 32, 33, 34, 35, 36, 37, 38, 39, 40, 41, 42, 43, 44, 45, 46, 47, 48, 49, 50, 51, 52, 53, 54, 55, 56, 57, 58, 59, 60, 61, 62, 63, 64, 65, 66, 67, 68, 69, 70, 71, 72, 73, 74, 75, 76, 77, 78, 79, 80, 81, 82, 83, 84

## DF40C-100DP-0.4V(51)
designator J?
footprint CONN-SMD_100P-P0.40_DF40C-100DP-0.4V-51
pins: 1, 2, 3, 4, 5, 6, 7, 8, 9, 10, 11, 12, 13, 14, 15, 16, 17, 18, 19, 20, 21, 22, 23, 24, 25, 26, 27, 28, 29, 30, 31, 32, 33, 34, 35, 36, 37, 38, 39, 40, 41, 42, 43, 44, 45, 46, 47, 48, 49, 50, 51, 52, 53, 54, 55, 56, 57, 58, 59, 60, 61, 62, 63, 64, 65, 66, 67, 68, 69, 70, 71, 72, 73, 74, 75, 76, 77, 78, 79, 80, 81, 82, 83, 84, 85, 86, 87, 88, 89, 90, 91, 92, 93, 94, 95, 96, 97, 98, 99, 100, 101, 102, 103, 104

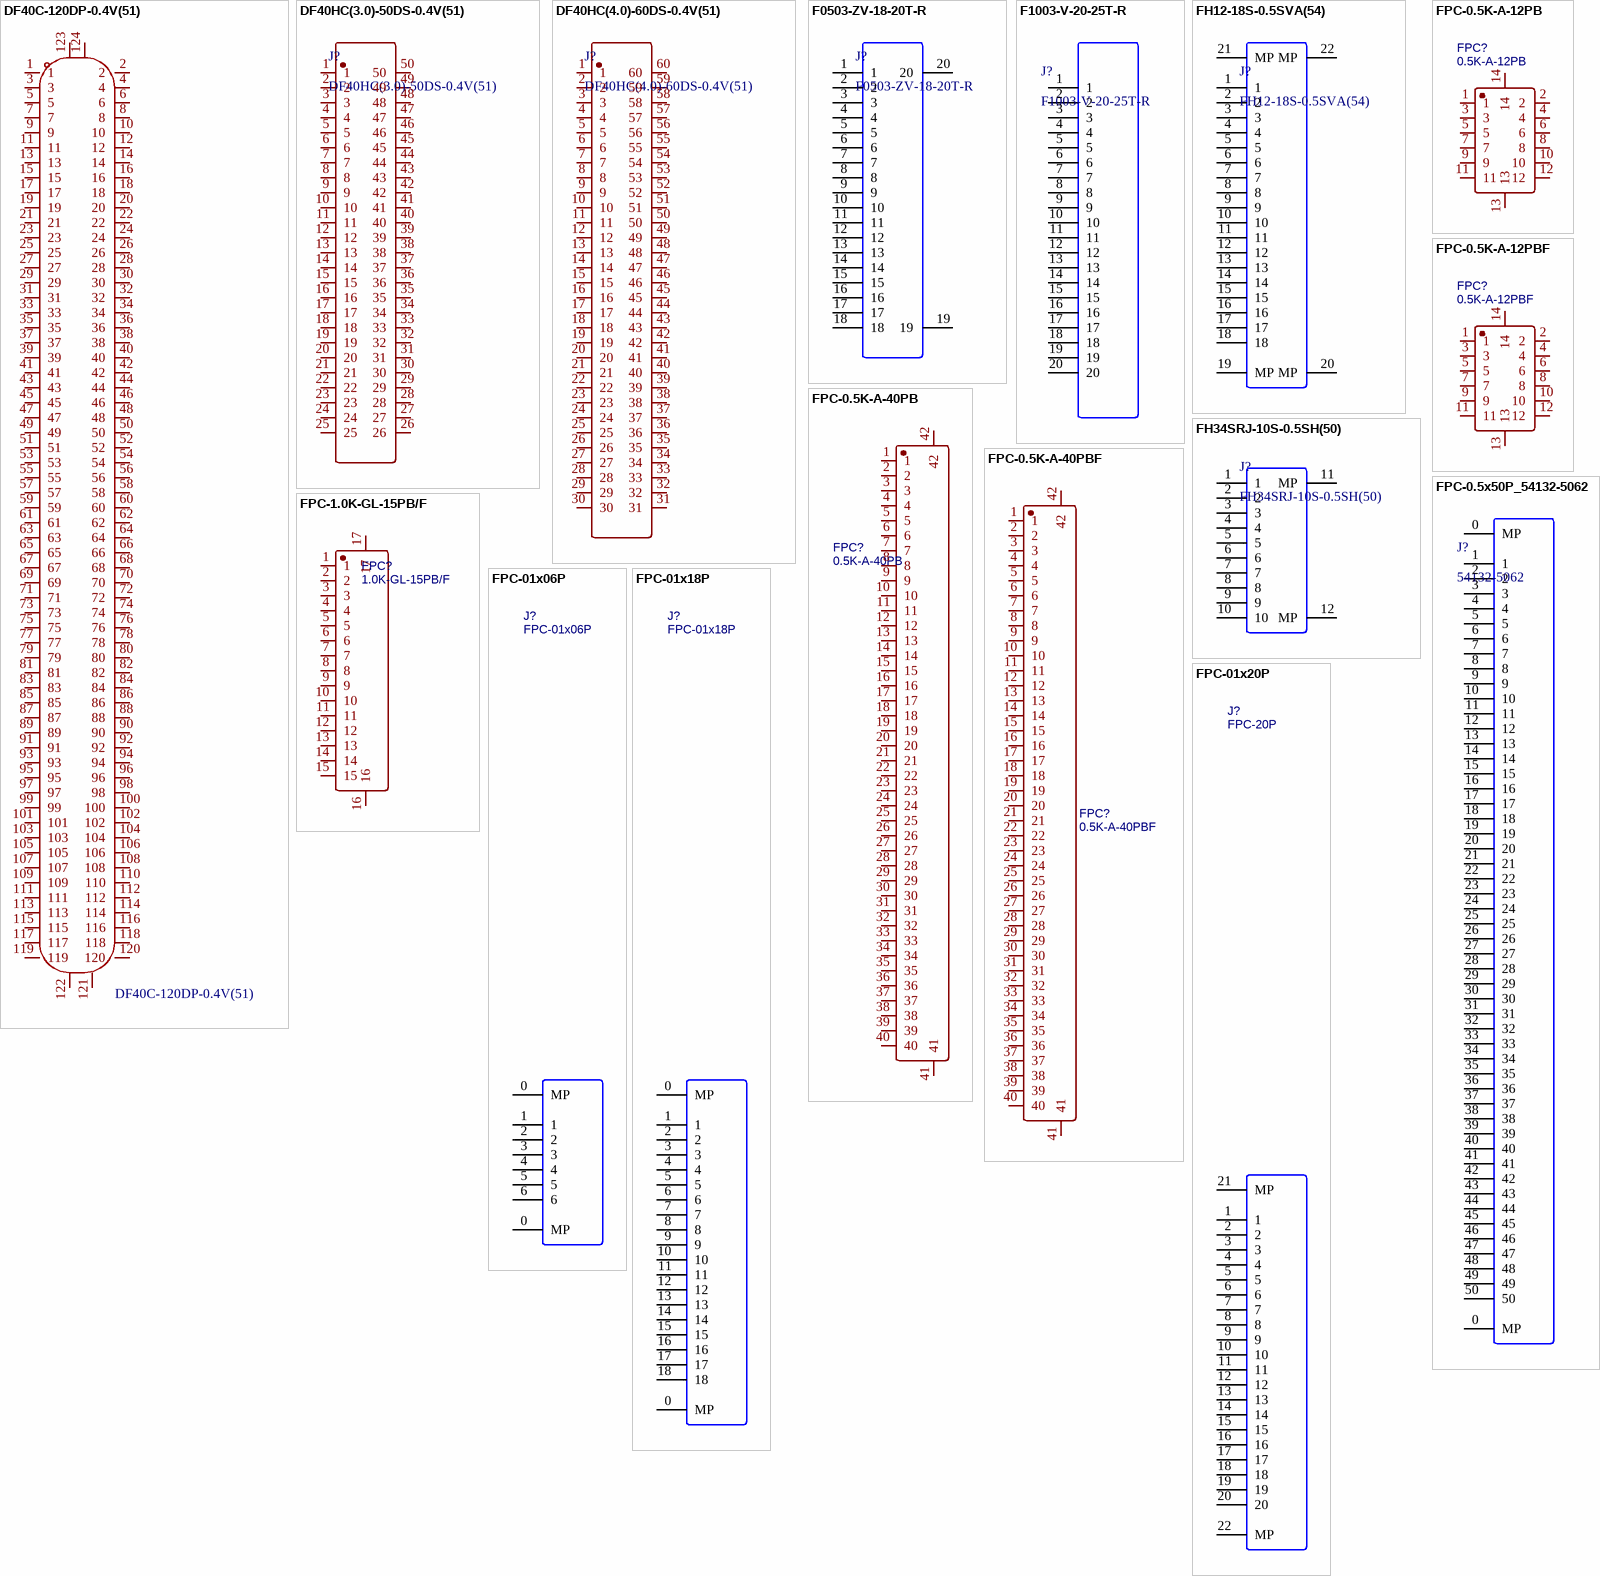
[diagram p5: symbols DF40C-120DP-0.4V(51) to FPC-01x20P]

## DF40C-120DP-0.4V(51)
designator J?
Symbol: DF40C-120DP-0.4V(51)
footprint CONN-SMD_120P-P0.40_DF40C-120DP-0.4V-51
pins: 1, 2, 3, 4, 5, 6, 7, 8, 9, 10, 11, 12, 13, 14, 15, 16, 17, 18, 19, 20, 21, 22, 23, 24, 25, 26, 27, 28, 29, 30, 31, 32, 33, 34, 35, 36, 37, 38, 39, 40, 41, 42, 43, 44, 45, 46, 47, 48, 49, 50, 51, 52, 53, 54, 55, 56, 57, 58, 59, 60, 61, 62, 63, 64, 65, 66, 67, 68, 69, 70, 71, 72, 73, 74, 75, 76, 77, 78, 79, 80, 81, 82, 83, 84, 85, 86, 87, 88, 89, 90, 91, 92, 93, 94, 95, 96, 97, 98, 99, 100, 101, 102, 103, 104, 105, 106, 107, 108, 109, 110, 111, 112, 113, 114, 115, 116, 117, 118, 119, 120, 121, 122, 123, 124

## DF40HC(3.0)-50DS-0.4V(51)
designator J?
0.4mm 50P 3mm高板对板连接器DF40HC(3.0)-50DS-0.4V(51)
footprint CONN-SMD_50P-P0.40_DF40HC(3.0)-50DS-0.4V(51)
pins: 1, 2, 3, 4, 5, 6, 7, 8, 9, 10, 11, 12, 13, 14, 15, 16, 17, 18, 19, 20, 21, 22, 23, 24, 25, 26, 27, 28, 29, 30, 31, 32, 33, 34, 35, 36, 37, 38, 39, 40, 41, 42, 43, 44, 45, 46, 47, 48, 49, 50

## DF40HC(4.0)-60DS-0.4V(51)
designator J?
0.4mm 50P 4mm高板对板连接器DF40HC(4.0)-60DS-0.4V(51)
footprint CONN-SMD_60P_P0.40_DF40HC(4.0)-60DS-0.4V(51)
pins: 1, 2, 3, 4, 5, 6, 7, 8, 9, 10, 11, 12, 13, 14, 15, 16, 17, 18, 19, 20, 21, 22, 23, 24, 25, 26, 27, 28, 29, 30, 31, 32, 33, 34, 35, 36, 37, 38, 39, 40, 41, 42, 43, 44, 45, 46, 47, 48, 49, 50, 51, 52, 53, 54, 55, 56, 57, 58, 59, 60

## F0503-ZV-18-20T-R
designator J?
0.5mm间距 18P 抽屉式 立贴 FPC座
footprint FPC-SMD_F0503-ZV-18-20T-R
pins: 1, 2, 3, 4, 5, 6, 7, 8, 9, 10, 11, 12, 13, 14, 15, 16, 17, 18, 19, 20

## F1003-V-20-25T-R
designator J?
间距:1mm P数:20P 抽屉式 单侧触点/垂直
footprint FPC-SMD_F1003-V-20-25T-R
pins: 1, 2, 3, 4, 5, 6, 7, 8, 9, 10, 11, 12, 13, 14, 15, 16, 17, 18, 19, 20

## FH12-18S-0.5SVA(54)
designator J?
HRS(广濑)  0.5mm 18P 立贴 翻盖
footprint FFC-SMD_18P-P0.50_FH12-18S-0.5SVA-54
pins: 1, 2, 3, 4, 5, 6, 7, 8, 9, 10, 11, 12, 13, 14, 15, 16, 17, 18, 19 MP, 20 MP, 21 MP, 22 MP

## FH34SRJ-10S-0.5SH(50)
designator J?
footprint FFC-SMD_10P-P0.50_FH34SRJ-10S-0.5SH
pins: 1, 2, 3, 4, 5, 6, 7, 8, 9, 10, 11 MP, 12 MP

## FPC-0.5K-A-12PB
designator FPC?, comment 0.5K-A-12PB
0.5间距立式SMT抽拉 H=4.5 12P; BOM_Manufacturer: HDGC(华德共创); Contributor: LCSC; BOM_Supplier: LCSC; BOM_Supplier Part: C2914138; BOM_Manufacturer Part: 0.5K-A-12PB; BOM_JLCPCB Part Class: Extended Part; spicePre: F; spiceSymbolName: 0.5K-A-12PB
footprint FPC-SMD_12P-P0.50_HDGC_0.5K-A-12PB
pins: 1, 2, 3, 4, 5, 6, 7, 8, 9, 10, 11, 12, 13, 14

## FPC-0.5K-A-12PBF
designator FPC?, comment 0.5K-A-12PBF
0.5间距立式贴片反脚H=4.5 12P; BOM_Manufacturer: HDGC(华德共创); Contributor: LCSC; BOM_Supplier: LCSC; BOM_Supplier Part: C2914207; BOM_Manufacturer Part: 0.5K-A-12PBF; spicePre: F; spiceSymbolName: 0.5K-A-12PBF
footprint FPC-SMD_12P-P0.50_HDGC_0.5K-A-12PBF
pins: 1, 2, 3, 4, 5, 6, 7, 8, 9, 10, 11, 12, 13, 14

## FPC-0.5K-A-40PB
designator FPC?, comment 0.5K-A-40PB
0.5mm FPC 40P 立贴 0.5K-A-40PB; BOM_Manufacturer: HDGC(华德共创); Contributor: LCSC; BOM_Supplier: LCSC; BOM_Supplier Part: C2914160; BOM_Manufacturer Part: 0.5K-A-40PB; BOM_JLCPCB Part Class: Extended Part; spicePre: F; spiceSymbolName: 0.5K-A-40PB
footprint FPC-SMD_40P-P0.50_HDGC_0.5K-A-40PB
pins: 1, 2, 3, 4, 5, 6, 7, 8, 9, 10, 11, 12, 13, 14, 15, 16, 17, 18, 19, 20, 21, 22, 23, 24, 25, 26, 27, 28, 29, 30, 31, 32, 33, 34, 35, 36, 37, 38, 39, 40, 41, 42

## FPC-0.5K-A-40PBF
designator FPC?, comment 0.5K-A-40PBF
0.5mm FPC 40P 立贴反脚 0.5K-A-40PB; BOM_Manufacturer: HDGC(华德共创); Contributor: LCSC; BOM_Supplier: LCSC; BOM_Supplier Part: C2914225; BOM_Manufacturer Part: 0.5K-A-40PBF; spicePre: F; spiceSymbolName: 0.5K-A-40PBF
footprint FPC-SMD_40P-P0.50_HDGC_0.5K-A-40PBF
pins: 1, 2, 3, 4, 5, 6, 7, 8, 9, 10, 11, 12, 13, 14, 15, 16, 17, 18, 19, 20, 21, 22, 23, 24, 25, 26, 27, 28, 29, 30, 31, 32, 33, 34, 35, 36, 37, 38, 39, 40, 41, 42

## FPC-0.5x50P_54132-5062
designator J?, comment 54132-5062
0.5mm FPC 50P 下接抽拉
footprint FPC-SMD_50P-P0.5mm_Molex_54132-5062
pins: 0 MP, 0 MP, 1, 2, 3, 4, 5, 6, 7, 8, 9, 10, 11, 12, 13, 14, 15, 16, 17, 18, 19, 20, 21, 22, 23, 24, 25, 26, 27, 28, 29, 30, 31, 32, 33, 34, 35, 36, 37, 38, 39, 40, 41, 42, 43, 44, 45, 46, 47, 48, 49, 50

## FPC-1.0K-GL-15PB/F
designator FPC?, comment 1.0K-GL-15PB/F
1mm FPC 15P 立贴正反脚兼容 1.0K-GL-15PB/F; BOM_Manufacturer: HDGC(华德共创); BOM_Manufacturer Part: 0.5K-A-40PBF; Contributor: LCSC; BOM_Supplier: LCSC; BOM_Supplier Part: C2914225; spicePre: F; spiceSymbolName: 0.5K-A-40PBF
footprint FPC_1.0K-GL-15PB
pins: 1, 2, 3, 4, 5, 6, 7, 8, 9, 10, 11, 12, 13, 14, 15, 16, 17

## FPC-01x06P
designator J?
BOM_Manufacturer: JUSHUO; BOM_Manufacturer Part: AFC07-S60ECC-00; Contributor: LCSC; BOM_Supplier: LCSC; BOM_Supplier Part: C262259; spicePre: F; spiceSymbolName: AFC07-S60ECC-00
footprint FPC-SMD_P06_0.5MM
pins: 0 MP, 0 MP, 1, 2, 3, 4, 5, 6

## FPC-01x18P
designator J?
footprint FPC-SMD_18P-P0.50_HDGC_0.5K-QX-18PWB
pins: 0 MP, 0 MP, 1, 2, 3, 4, 5, 6, 7, 8, 9, 10, 11, 12, 13, 14, 15, 16, 17, 18

## FPC-01x20P
designator J?, comment FPC-20P
BOM_Manufacturer: JUSHUO; BOM_Manufacturer Part: AFC07-S60ECC-00; Contributor: LCSC; BOM_Supplier: LCSC; BOM_Supplier Part: C262259; spicePre: F; spiceSymbolName: AFC07-S60ECC-00
footprint FPC-SMD_P20_0.5MM
footprint FPC-SMD_20P-P0.50_XUNPU_FPC-05F-20PH20
footprint FPC-SMD_20P-P0.50_AFC07-S20ECA-00
pins: 1, 2, 3, 4, 5, 6, 7, 8, 9, 10, 11, 12, 13, 14, 15, 16, 17, 18, 19, 20, 21 MP, 22 MP

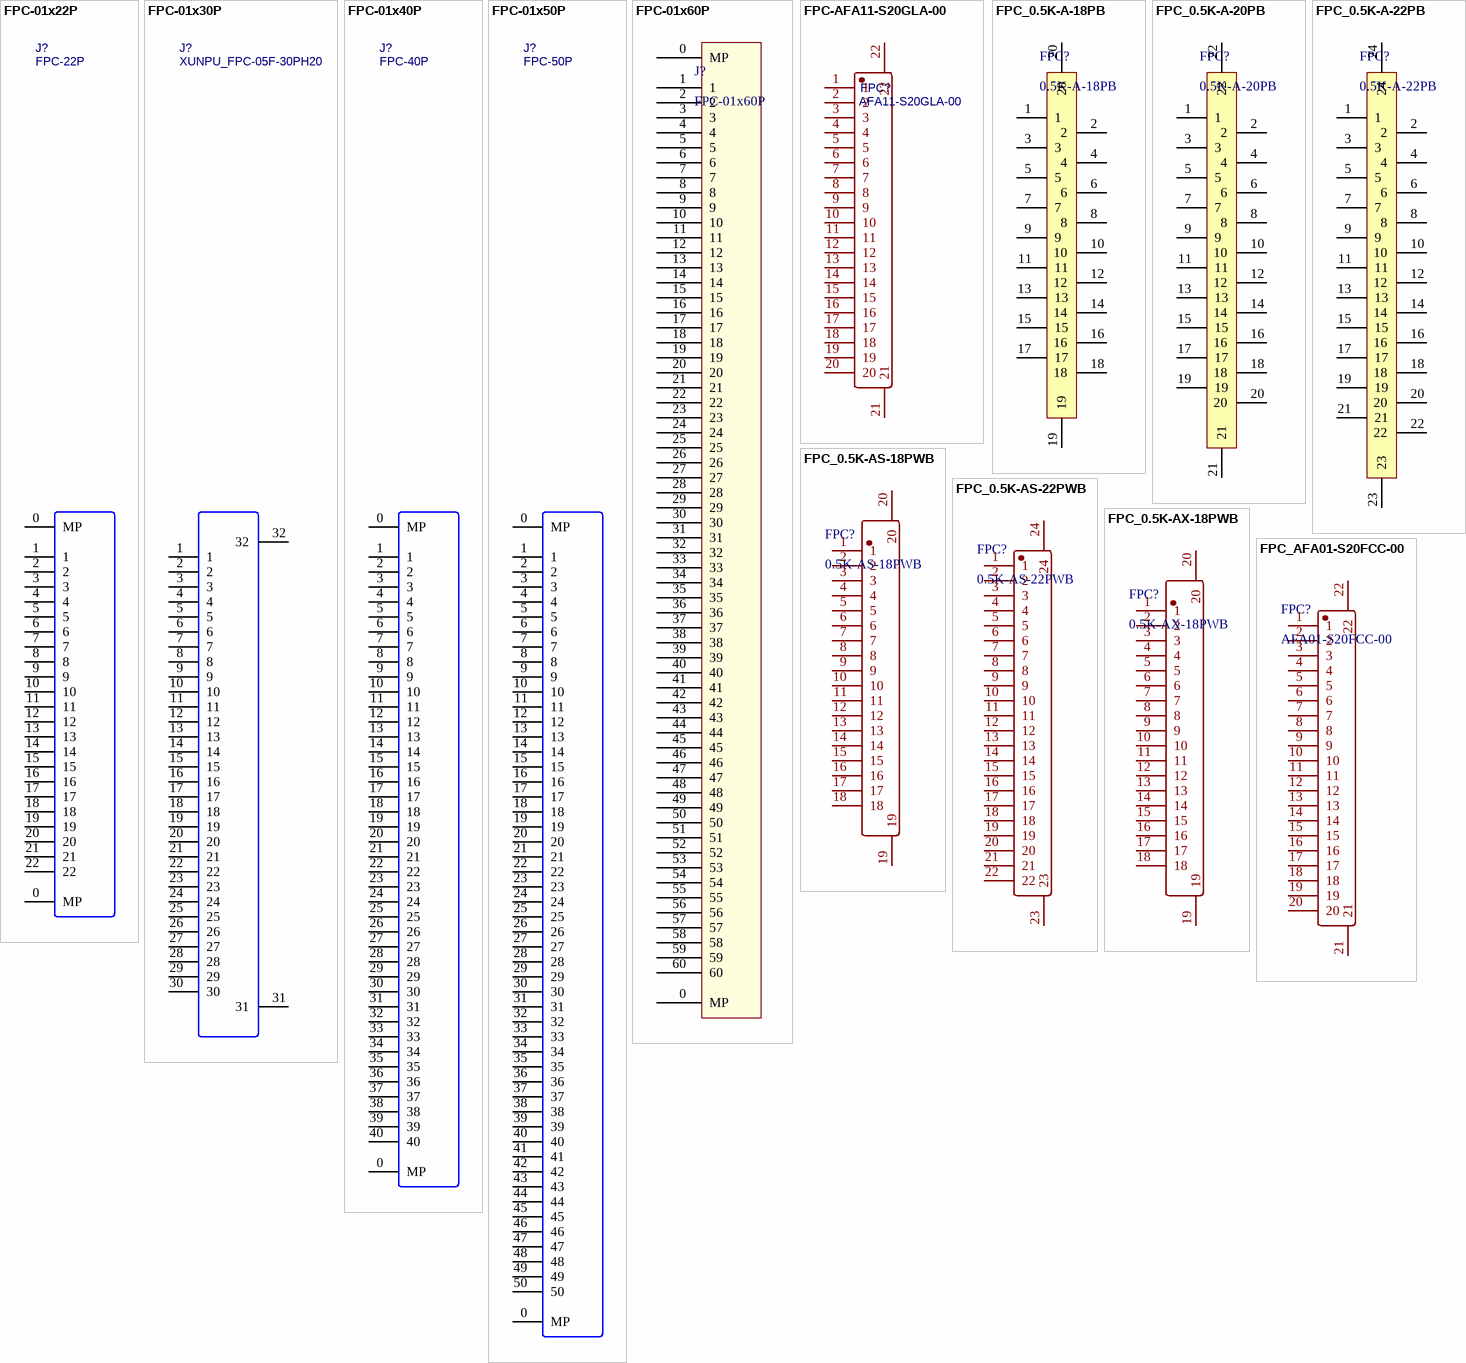
[diagram p6: symbols FPC-01x22P to FPC_AFA01-S20FCC-00]

## FPC-01x22P
designator J?, comment FPC-22P
footprint FPC-SMD_P22_0.5MM
pins: 0 MP, 0 MP, 1, 2, 3, 4, 5, 6, 7, 8, 9, 10, 11, 12, 13, 14, 15, 16, 17, 18, 19, 20, 21, 22

## FPC-01x30P
designator J?, comment XUNPU_FPC-05F-30PH20
footprint FPC-SMD_30P-P0.50_XUNPU_FPC-05F-30PH20
pins: 1, 2, 3, 4, 5, 6, 7, 8, 9, 10, 11, 12, 13, 14, 15, 16, 17, 18, 19, 20, 21, 22, 23, 24, 25, 26, 27, 28, 29, 30, 31, 32

## FPC-01x40P
designator J?, comment FPC-40P
BOM_Manufacturer: JUSHUO; BOM_Manufacturer Part: AFC07-S60ECC-00; Contributor: LCSC; BOM_Supplier: LCSC; BOM_Supplier Part: C262259; spicePre: F; spiceSymbolName: AFC07-S60ECC-00
footprint FPC-0.5-40P
pins: 0 MP, 0 MP, 1, 2, 3, 4, 5, 6, 7, 8, 9, 10, 11, 12, 13, 14, 15, 16, 17, 18, 19, 20, 21, 22, 23, 24, 25, 26, 27, 28, 29, 30, 31, 32, 33, 34, 35, 36, 37, 38, 39, 40

## FPC-01x50P
designator J?, comment FPC-50P
BOM_Manufacturer: JUSHUO; BOM_Manufacturer Part: AFC07-S60ECC-00; Contributor: LCSC; BOM_Supplier: LCSC; BOM_Supplier Part: C262259; spicePre: F; spiceSymbolName: AFC07-S60ECC-00
footprint FPC-SMD_P50_0.5MM
pins: 0 MP, 0 MP, 1, 2, 3, 4, 5, 6, 7, 8, 9, 10, 11, 12, 13, 14, 15, 16, 17, 18, 19, 20, 21, 22, 23, 24, 25, 26, 27, 28, 29, 30, 31, 32, 33, 34, 35, 36, 37, 38, 39, 40, 41, 42, 43, 44, 45, 46, 47, 48, 49, 50

## FPC-01x60P
designator J?
footprint FPC-SMD_P60_0.5MM
pins: 0 MP, 0 MP, 1, 2, 3, 4, 5, 6, 7, 8, 9, 10, 11, 12, 13, 14, 15, 16, 17, 18, 19, 20, 21, 22, 23, 24, 25, 26, 27, 28, 29, 30, 31, 32, 33, 34, 35, 36, 37, 38, 39, 40, 41, 42, 43, 44, 45, 46, 47, 48, 49, 50, 51, 52, 53, 54, 55, 56, 57, 58, 59, 60

## FPC-AFA11-S20GLA-00
designator FPC?, comment AFA11-S20GLA-00
1mm间距立式SMT抽拉 20 P; BOM_Manufacturer: JS(钜硕电子); Contributor: LCSC; BOM_Supplier: LCSC; BOM_Supplier Part: C2912860; BOM_Manufacturer Part: AFA11-S20GLA-00; spicePre: X; spiceSymbolName: AFA11-S20GLA-00
footprint FPC-SMD_20P-P1.00_JUSHUO_AFA11-S20GLA-00
pins: 1, 2, 3, 4, 5, 6, 7, 8, 9, 10, 11, 12, 13, 14, 15, 16, 17, 18, 19, 20, 21, 22

## FPC_0.5K-A-18PB
designator FPC?, comment 0.5K-A-18PB
0.5mm P数:18 抽屉式 单侧触点/垂直
footprint FPC-SMD_18P-P0.50_HDGC_0.5K-A-18PB
pins: 1, 2, 3, 4, 5, 6, 7, 8, 9, 10, 11, 12, 13, 14, 15, 16, 17, 18, 19, 20

## FPC_0.5K-A-20PB
designator FPC?, comment 0.5K-A-20PB
0.5mm P数:20 抽屉式 单侧触点/垂直
footprint FPC-SMD_20P-P0.50_HDGC_0.5K-A-20PB
pins: 1, 2, 3, 4, 5, 6, 7, 8, 9, 10, 11, 12, 13, 14, 15, 16, 17, 18, 19, 20, 21, 22

## FPC_0.5K-A-22PB
designator FPC?, comment 0.5K-A-22PB
0.5mm P数:22 抽屉式 单侧触点/垂直
footprint FPC-SMD_22P-P0.50_HDGC_0.5K-A-22PB
pins: 1, 2, 3, 4, 5, 6, 7, 8, 9, 10, 11, 12, 13, 14, 15, 16, 17, 18, 19, 20, 21, 22, 23, 24

## FPC_0.5K-AS-18PWB
designator FPC?, comment 0.5K-AS-18PWB
0.5mm P数:18 抽屉式 上接
footprint FPC-SMD_18P-P0.50_THD05175-18CL-GF
footprint FPC-SMD_18P-P0.50_HDGC_0.5K-AS-18PWB
pins: 1, 2, 3, 4, 5, 6, 7, 8, 9, 10, 11, 12, 13, 14, 15, 16, 17, 18, 19, 20

## FPC_0.5K-AS-22PWB
designator FPC?, comment 0.5K-AS-22PWB
0.5mm P数:22 抽屉式 上接
footprint FPC-SMD_22P-P0.50_HDGC_0.5K-AS-22PWB
pins: 1, 2, 3, 4, 5, 6, 7, 8, 9, 10, 11, 12, 13, 14, 15, 16, 17, 18, 19, 20, 21, 22, 23, 24

## FPC_0.5K-AX-18PWB
designator FPC?, comment 0.5K-AX-18PWB
0.5mm P数:18 抽屉式 下接
footprint FPC-SMD_18P-P0.50_THD05175-18CL-GF
footprint FPC-SMD_18P-P0.50_HDGC_0.5K-AX-18PWB
pins: 1, 2, 3, 4, 5, 6, 7, 8, 9, 10, 11, 12, 13, 14, 15, 16, 17, 18, 19, 20

## FPC_AFA01-S20FCC-00
designator FPC?, comment AFA01-S20FCC-00
FPC 1mm 20P卧贴翻盖下接
footprint FPC-SMD_20P-P1.00_AFA01-S20FCC-00
pins: 1, 2, 3, 4, 5, 6, 7, 8, 9, 10, 11, 12, 13, 14, 15, 16, 17, 18, 19, 20, 21, 22

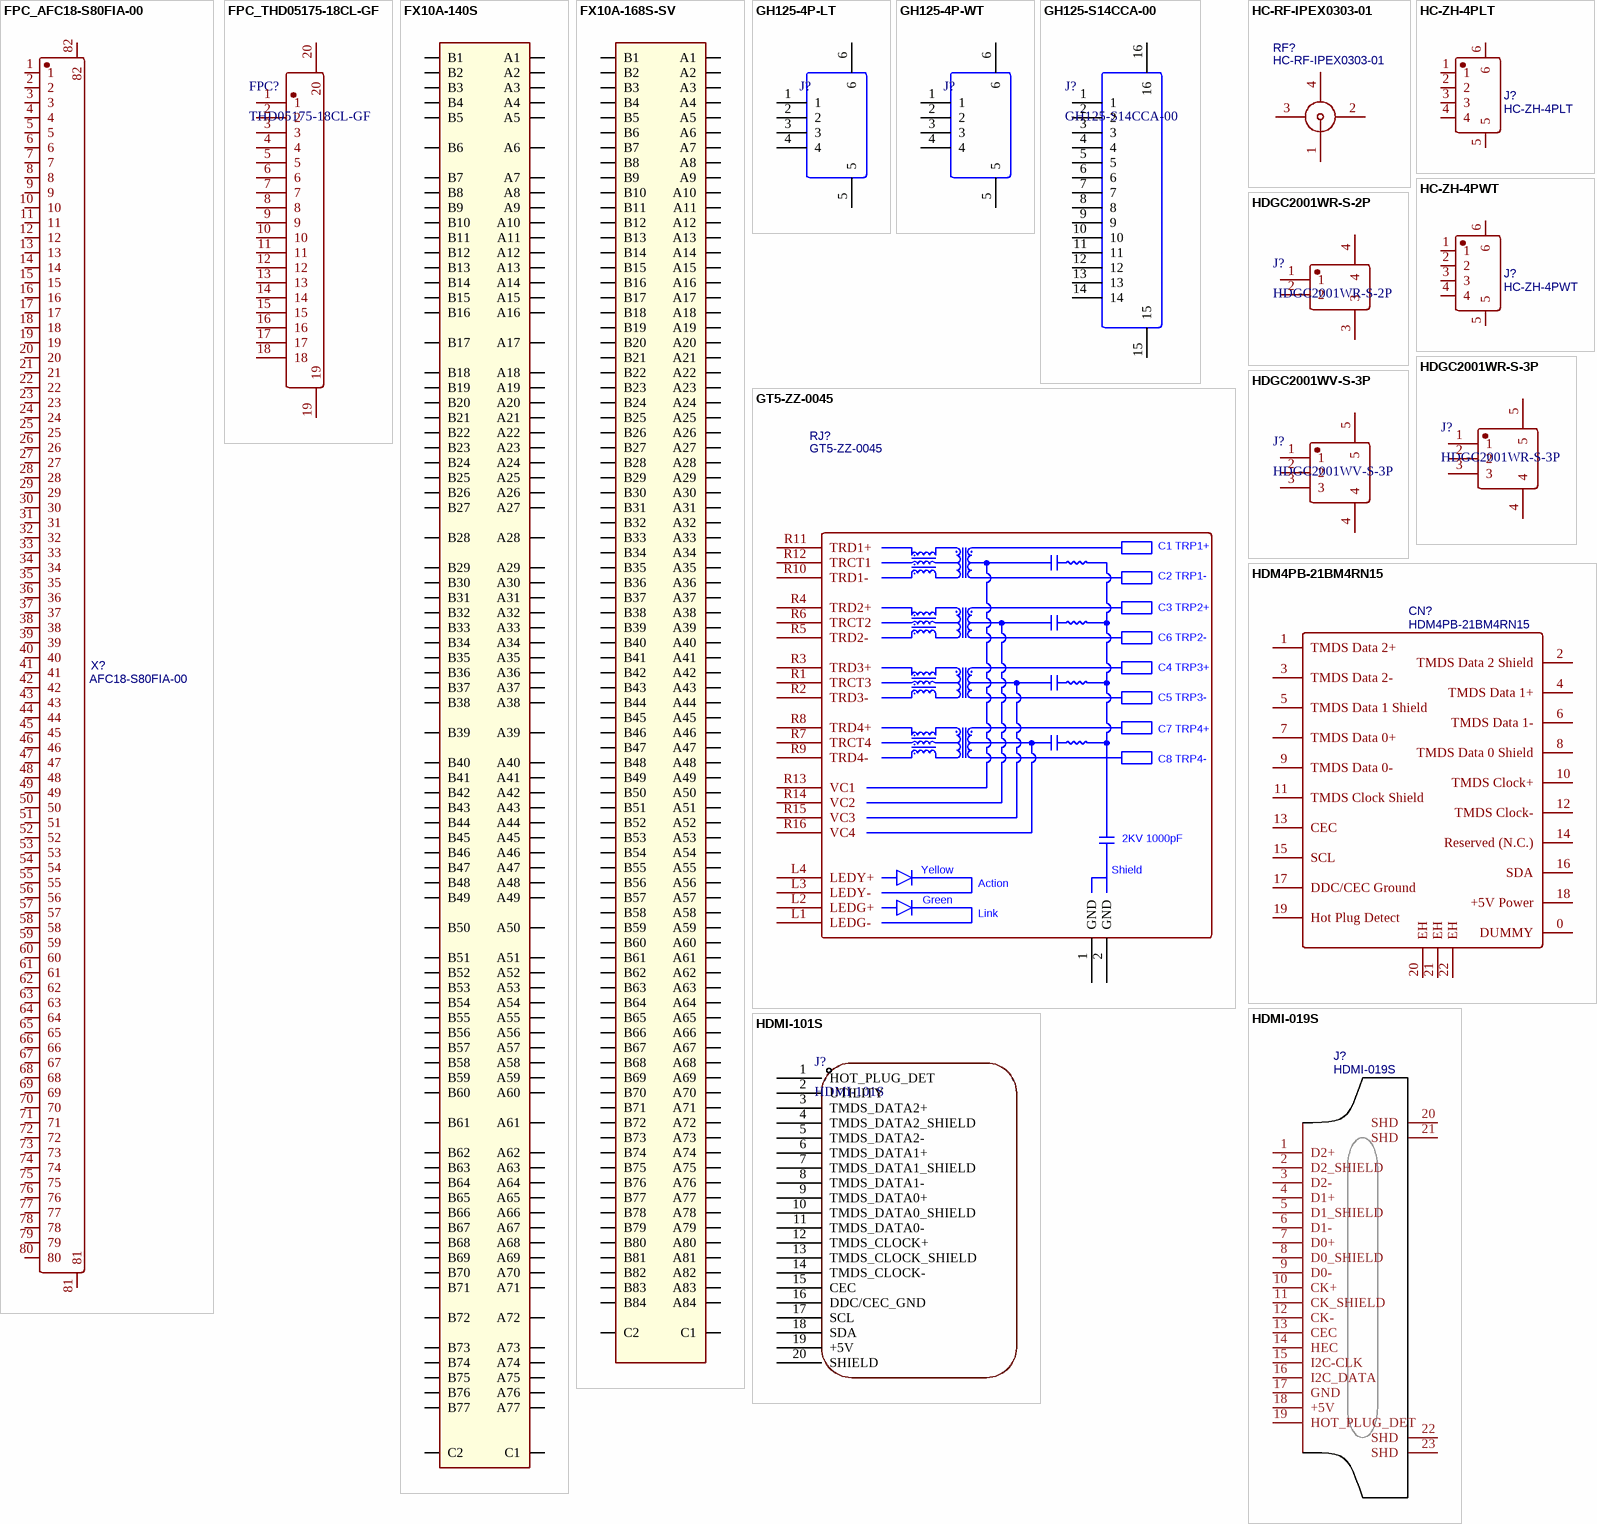
[diagram p7: symbols FPC_AFC18-S80FIA-00 to HDMI-101S]

## FPC_AFC18-S80FIA-00
designator X?, comment AFC18-S80FIA-00
FPC 0.5mm 80P 翻盖下接; BOM_Manufacturer: JS(钜硕电子); Contributor: LCSC; BOM_Supplier: LCSC; BOM_Supplier Part: C2842534; BOM_Manufacturer Part: AFC18-S80FIA-00; BOM_JLCPCB Part Class: Extended Part; spicePre: X; spiceSymbolName: AFC18-S80FIA-00
footprint FPC-SMD_AFC18-S80FIA-00
pins: 1, 2, 3, 4, 5, 6, 7, 8, 9, 10, 11, 12, 13, 14, 15, 16, 17, 18, 19, 20, 21, 22, 23, 24, 25, 26, 27, 28, 29, 30, 31, 32, 33, 34, 35, 36, 37, 38, 39, 40, 41, 42, 43, 44, 45, 46, 47, 48, 49, 50, 51, 52, 53, 54, 55, 56, 57, 58, 59, 60, 61, 62, 63, 64, 65, 66, 67, 68, 69, 70, 71, 72, 73, 74, 75, 76, 77, 78, 79, 80, 81, 82

## FPC_THD05175-18CL-GF
designator FPC?, comment THD05175-18CL-GF
0.5mm P数:18 翻盖式 下接 带卡扣
footprint FPC-SMD_18P-P0.50_THD05175-18CL-GF
pins: 1, 2, 3, 4, 5, 6, 7, 8, 9, 10, 11, 12, 13, 14, 15, 16, 17, 18, 19, 20

## FX10A-140S
designator U?
footprint FX10A-140S_14-SV
pins: A1, A2, A3, A4, A5, A6, A7, A8, A9, A10, A11, A12, A13, A14, A15, A16, A17, A18, A19, A20, A21, A22, A23, A24, A25, A26, A27, A28, A29, A30, A31, A32, A33, A34, A35, A36, A37, A38, A39, A40, A41, A42, A43, A44, A45, A46, A47, A48, A49, A50, A51, A52, A53, A54, A55, A56, A57, A58, A59, A60, A61, A62, A63, A64, A65, A66, A67, A68, A69, A70, A71, A72, A73, A74, A75, A76, A77, B1, B2, B3, B4, B5, B6, B7, B8, B9, B10, B11, B12, B13, B14, B15, B16, B17, B18, B19, B20, B21, B22, B23, B24, B25, B26, B27, B28, B29, B30, B31, B32, B33, B34, B35, B36, B37, B38, B39, B40, B41, B42, B43, B44, B45, B46, B47, B48, B49, B50, B51, B52, B53, B54, B55, B56, B57, B58, B59, B60, B61, B62, B63, B64, B65, B66, B67, B68, B69, B70, B71, B72, B73, B74, B75, B76, B77, C1, C2

## FX10A-168S-SV
designator U?
footprint FX10A-168S-SV
pins: A1, A2, A3, A4, A5, A6, A7, A8, A9, A10, A11, A12, A13, A14, A15, A16, A17, A18, A19, A20, A21, A22, A23, A24, A25, A26, A27, A28, A29, A30, A31, A32, A33, A34, A35, A36, A37, A38, A39, A40, A41, A42, A43, A44, A45, A46, A47, A48, A49, A50, A51, A52, A53, A54, A55, A56, A57, A58, A59, A60, A61, A62, A63, A64, A65, A66, A67, A68, A69, A70, A71, A72, A73, A74, A75, A76, A77, A78, A79, A80, A81, A82, A83, A84, B1, B2, B3, B4, B5, B6, B7, B8, B9, B10, B11, B12, B13, B14, B15, B16, B17, B18, B19, B20, B21, B22, B23, B24, B25, B26, B27, B28, B29, B30, B31, B32, B33, B34, B35, B36, B37, B38, B39, B40, B41, B42, B43, B44, B45, B46, B47, B48, B49, B50, B51, B52, B53, B54, B55, B56, B57, B58, B59, B60, B61, B62, B63, B64, B65, B66, B67, B68, B69, B70, B71, B72, B73, B74, B75, B76, B77, B78, B79, B80, B81, B82, B83, B84, C1, C2

## GH125-4P-LT
designator J?, comment BM04B-GHS-TBT(LF)(SN)  (value not drawn)
JST  GH 1.25 4P 立贴带锁
footprint CONN-SMD_4P-P1.25_BM04B-GHS-TBT-LF-SN
pins: 1, 2, 3, 4, 5, 6

## GH125-4P-WT
designator J?, comment SM04B-GHS-TB(LF)(SN)  (value not drawn)
JST  GH 1.25 4P 卧贴带锁
footprint CONN-SMD_4P-P1.25_SM04B-GHS-TB-LF-SN
pins: 1, 2, 3, 4, 5, 6

## GH125-S14CCA-00
designator J?
间距：1.25mm GH连接器 GH1.25立式贴片 14P 带扣
footprint CONN-SMD_14P-P1.25_JS_GH125-S14CCA-00
pins: 1, 2, 3, 4, 5, 6, 7, 8, 9, 10, 11, 12, 13, 14, 15, 16

## GT5-ZZ-0045
designator RJ?
10G 加POE60W 左黄右绿 开口向上; BOM_Manufacturer: UDE Corp; Contributor: LCSC; BOM_Supplier: LCSC; BOM_Supplier Part: C711509; BOM_Manufacturer Part: GT5-ZZ-0045; BOM_JLCPCB Part Class: Extended Part; spicePre: R; spiceSymbolName: GT5-ZZ-0045
footprint RJ45-TH_GT5-ZZ-0045
pins: 1 GND, 2 GND, L1 LEDG-, L2 LEDG+, L3 LEDY-, L4 LEDY+, R1 TRCT3, R2 TRD3-, R3 TRD3+, R4 TRD2+, R5 TRD2-, R6 TRCT2, R7 TRCT4, R8 TRD4+, R9 TRD4-, R10 TRD1-, R11 TRD1+, R12 TRCT1, R13 VC1, R14 VC2, R15 VC3, R16 VC4
text: C1 TRP1+; C2 TRP1-; C3 TRP2+; C6 TRP2-; C4 TRP3+; C5 TRP3-; C7 TRP4+; C8 TRP4-; 2KV 1000pF; Yellow; Shield; Action; Green; Link

## HC-RF-IPEX0303-01
designator RF?
板端 内针 直径2mm 高度1.25mm; BOM_Manufacturer: HCTL(华灿天禄); Contributor: LCSC; BOM_Supplier: LCSC; BOM_Supplier Part: C2894919; BOM_Manufacturer Part: HC-RF-IPEX0303-01; BOM_JLCPCB Part Class: Extended Part; spicePre: R; spiceSymbolName: HC-RF-IPEX0303-01
footprint IPEX-SMD_HC-RF-IPEX0303-01
pins: 1, 2, 3, 4

## HC-ZH-4PLT
designator J?
4P 立贴 间距P=1.5mm; BOM_Manufacturer: HCTL(华灿天禄); Contributor: LCSC; BOM_Supplier: LCSC; BOM_Supplier Part: C2845435; BOM_Manufacturer Part: HC-ZH-4PLT; BOM_JLCPCB Part Class: Extended Part; spicePre: C; spiceSymbolName: HC-ZH-4PLT
footprint CONN-SMD_4P-P1.5_HC-ZH-4PLT
pins: 1, 2, 3, 4, 5, 6

## HC-ZH-4PWT
designator J?
4P 卧贴 间距P=1.5mm; BOM_Manufacturer: HCTL(华灿天禄); BOM_Manufacturer Part: HC-ZH-4PLT; Contributor: LCSC; BOM_Supplier: LCSC; BOM_Supplier Part: C2845435; BOM_JLCPCB Part Class: Extended Part; spicePre: C; spiceSymbolName: HC-ZH-4PLT
footprint CONN-SMD_4P-P1.5_HC-ZH-4PW
pins: 1, 2, 3, 4, 5, 6

## HDGC2001WR-S-2P
designator J?
PH2.0-2P 卧贴
footprint CONN-SMD_2P-P2.00_HDGC_HDGC2001WR-S-2P
pins: 1, 2, 3, 4

## HDGC2001WR-S-3P
designator J?
PH2.0-3P 卧贴
footprint CONN-SMD_3P-P2.00_HDGC_HDGC2001WR-S-3P
pins: 1, 2, 3, 4, 5

## HDGC2001WV-S-3P
designator J?
PH2.0-3P 立贴
footprint CONN-SMD_3P-P2.00_HDGC_HDGC2001WV-S-3P
pins: 1, 2, 3, 4, 5

## HDM4PB-21BM4RN15
designator CN?
HDMI 立贴; BOM_Manufacturer: DLK; Contributor: LCSC; BOM_Supplier: LCSC; BOM_Supplier Part: C668132; BOM_Manufacturer Part: HDM4PB-21BM4RN15; BOM_JLCPCB Part Class: Extended Part; spicePre: C; spiceSymbolName: HDM4PB-21BM4RN15
footprint HDMI-SMD_HDM4PB-21BM4RN15
pins: 0 DUMMY, 1 TMDS Data 2+, 2 TMDS Data 2 Shield, 3 TMDS Data 2-, 4 TMDS Data 1+, 5 TMDS Data 1 Shield, 6 TMDS Data 1-, 7 TMDS Data 0+, 8 TMDS Data 0 Shield, 9 TMDS Data 0-, 10 TMDS Clock+, 11 TMDS Clock Shield, 12 TMDS Clock-, 13 CEC, 14 Reserved (N.C.), 15 SCL, 16 SDA, 17 DDC/CEC Ground, 18 +5V Power, 19 Hot Plug Detect, 20 EH, 21 EH, 22 EH

## HDMI-019S
designator J?
BOM_Manufacturer: SOFNG; BOM_Supplier: LCSC; BOM_Manufacturer Part: HDMI-019S; BOM_Supplier Part: C111617; spicePre: H; spiceSymbolName: HDMI-019S
footprint HDMI-SMD_HDMI-019S
pins: 1 D2+, 2 D2_SHIELD, 3 D2-, 4 D1+, 5 D1_SHIELD, 6 D1-, 7 D0+, 8 D0_SHIELD, 9 D0-, 10 CK+, 11 CK_SHIELD, 12 CK-, 13 CEC, 14 HEC, 15 I2C-CLK, 16 I2C_DATA, 17 GND, 18 +5V, 19 HOT_PLUG_DET, 20 SHD, 21 SHD, 22 SHD, 23 SHD

## HDMI-101S
designator J?
HDMI 19PIN D型前插后贴HDMI插座 铜壳
footprint HDMI-SMD_HDMI-101S
pins: 1 HOT_PLUG_DET, 2 UTILITY, 3 TMDS_DATA2+, 4 TMDS_DATA2_SHIELD, 5 TMDS_DATA2-, 6 TMDS_DATA1+, 7 TMDS_DATA1_SHIELD, 8 TMDS_DATA1-, 9 TMDS_DATA0+, 10 TMDS_DATA0_SHIELD, 11 TMDS_DATA0-, 12 TMDS_CLOCK+, 13 TMDS_CLOCK_SHIELD, 14 TMDS_CLOCK-, 15 CEC, 16 DDC/CEC_GND, 17 SCL, 18 SDA, 19 +5V, 20 SHIELD

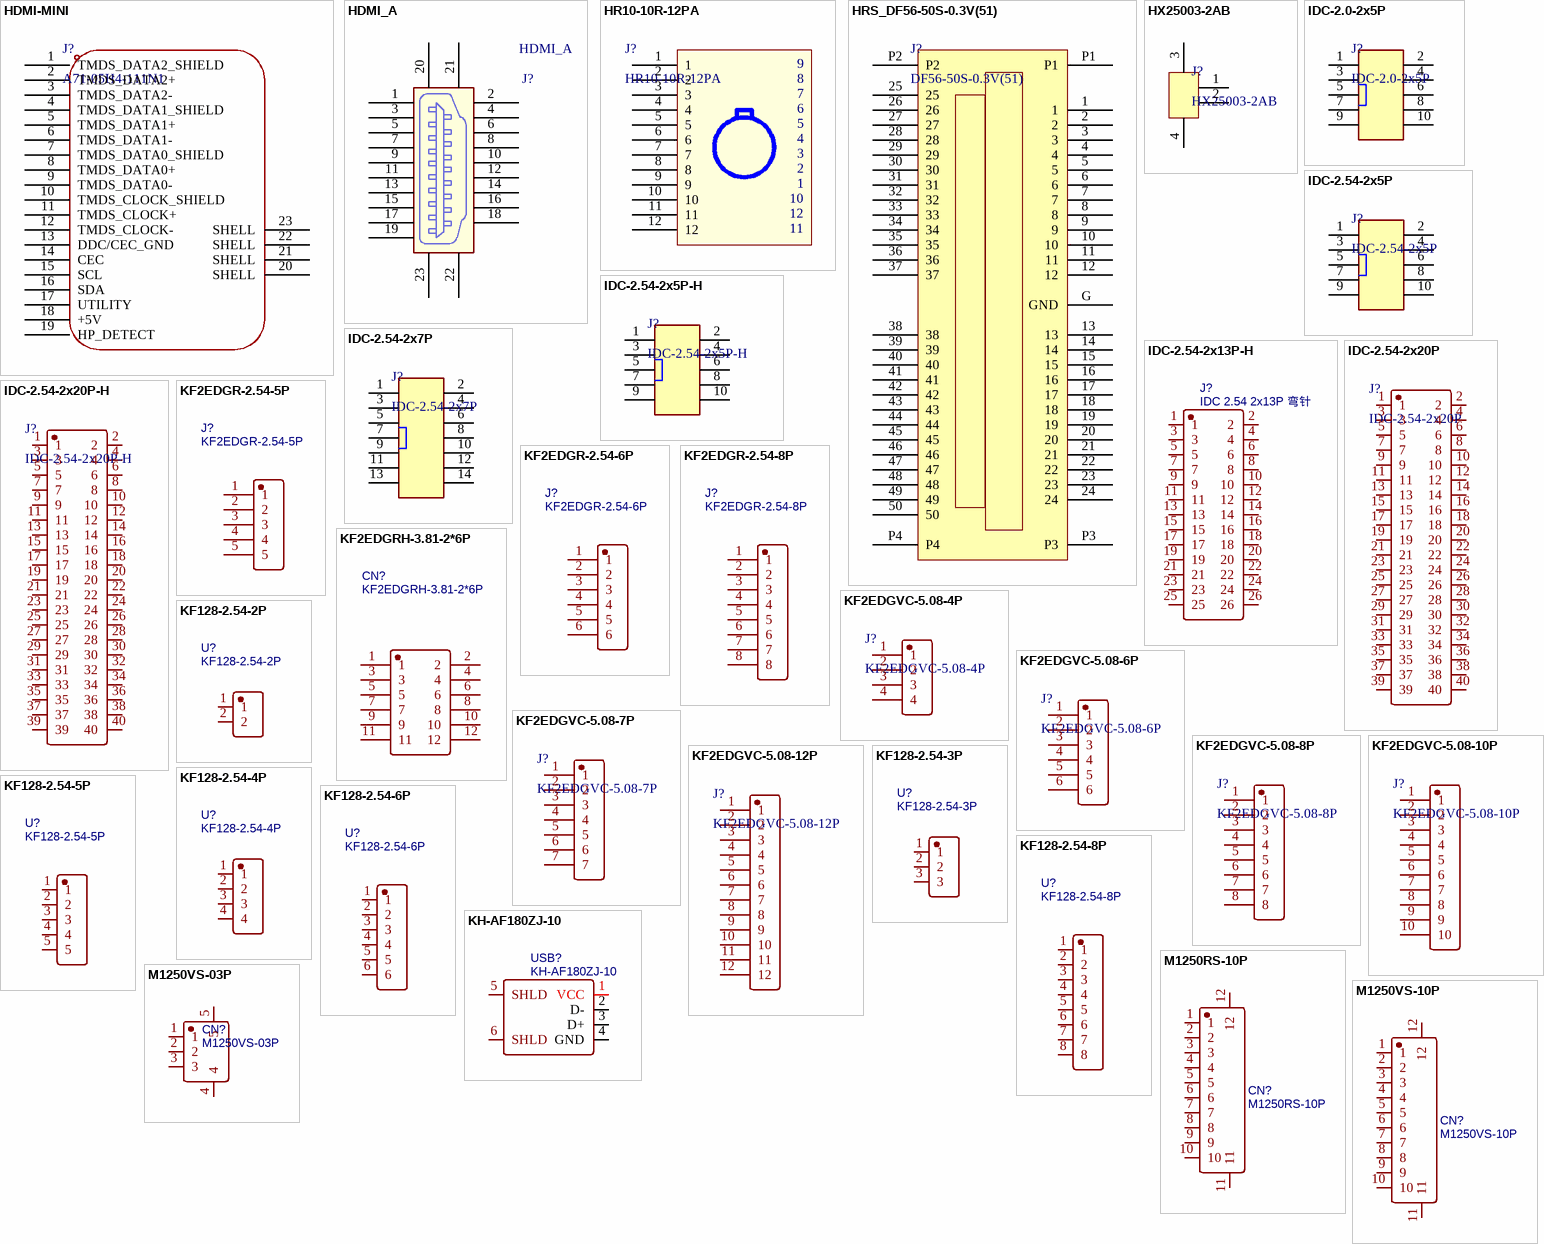
[diagram p8: symbols HDMI-MINI to M1250VS-10P]

## HDMI-MINI
designator J?, comment A71-05H4-111N1
footprint HDMI-SMD_A71-05H4-111N1
pins: 1 TMDS_DATA2_SHIELD, 2 TMDS_DATA2+, 3 TMDS_DATA2-, 4 TMDS_DATA1_SHIELD, 5 TMDS_DATA1+, 6 TMDS_DATA1-, 7 TMDS_DATA0_SHIELD, 8 TMDS_DATA0+, 9 TMDS_DATA0-, 10 TMDS_CLOCK_SHIELD, 11 TMDS_CLOCK+, 12 TMDS_CLOCK-, 13 DDC/CEC_GND, 14 CEC, 15 SCL, 16 SDA, 17 UTILITY, 18 +5V, 19 HP_DETECT, 20 SHELL, 21 SHELL, 22 SHELL, 23 SHELL

## HDMI_A
designator J?
footprint HDMI-A-19P
pins: 1 $PIN0, 2, 3, 4, 5, 6, 7, 8, 9, 10, 11, 12, 13, 14, 15, 16, 17, 18, 19, 20, 21, 22, 23

## HR10-10R-12PA
designator J?
HRS 航空插头 HR10-10R-12PA
footprint HR10-10R-12PA
pins: 1, 2, 3, 4, 5, 6, 7, 8, 9, 10, 11, 12

## HRS_DF56-50S-0.3V(51)
designator J?, comment DF56-50S-0.3V(51)
HRS DF56-50S-0.3V(51)
footprint HRS_DF56-50S-0.3V(51)
pins: 1, 2, 3, 4, 5, 6, 7, 8, 9, 10, 11, 12, 13, 14, 15, 16, 17, 18, 19, 20, 21, 22, 23, 24, 25, 26, 27, 28, 29, 30, 31, 32, 33, 34, 35, 36, 37, 38, 39, 40, 41, 42, 43, 44, 45, 46, 47, 48, 49, 50, G GND, P1, P2, P3, P4

## HX25003-2AB
designator J?
母座 立贴 2.5mm 2Pin位
footprint CONN-SMD_P2.50_HX25003-2AB
pins: 1, 2, 3, 4

## IDC-2.0-2x5P
designator J?
IDC-2mm-2*5P 直插
footprint IDC-2.0-2x5P
pins: 1, 2, 3, 4, 5, 6, 7, 8, 9, 10

## IDC-2.54-2x5P
designator J?
IDC-2.54-2*5P 直插
footprint IDC-TH_10P-P2.54
pins: 1, 2, 3, 4, 5, 6, 7, 8, 9, 10

## IDC-2.54-2x5P-H
designator J?
IDC-2.54-2*5P 弯针
footprint IDC-TH_10P-P2.54-H
pins: 1, 2, 3, 4, 5, 6, 7, 8, 9, 10

## IDC-2.54-2x7P
designator J?
IDC-2.54-2*7P直插
footprint IDC-TH_14P-P2.54
pins: 1, 2, 3, 4, 5, 6, 7, 8, 9, 10, 11, 12, 13, 14

## IDC-2.54-2x13P-H
designator J?, comment IDC 2.54 2x13P 弯针
BOM_Manufacturer: BOOMELE; BOM_Manufacturer Part: IDC Box 2×13P; BOM_Supplier: LCSC; BOM_Supplier Part: C21167; BOM_JLCPCB Part Class: Extended Part; spicePre: C; spiceSymbolName: IDC Box 2×13P
footprint IDC-TH_26P-P2.54_BOOMELE-2X13P-2.54MM-H
pins: 1, 2, 3, 4, 5, 6, 7, 8, 9, 10, 11, 12, 13, 14, 15, 16, 17, 18, 19, 20, 21, 22, 23, 24, 25, 26

## IDC-2.54-2x20P
designator J?
footprint IDC-TH_40P-P2.54_2x20P
pins: 1, 2, 3, 4, 5, 6, 7, 8, 9, 10, 11, 12, 13, 14, 15, 16, 17, 18, 19, 20, 21, 22, 23, 24, 25, 26, 27, 28, 29, 30, 31, 32, 33, 34, 35, 36, 37, 38, 39, 40

## IDC-2.54-2x20P-H
designator J?
IDC-2.54-2x20P 弯针
footprint IDC-TH_40P-P2.54-2x20P-H
pins: 1, 2, 3, 4, 5, 6, 7, 8, 9, 10, 11, 12, 13, 14, 15, 16, 17, 18, 19, 20, 21, 22, 23, 24, 25, 26, 27, 28, 29, 30, 31, 32, 33, 34, 35, 36, 37, 38, 39, 40

## KF2EDGR-2.54-5P
designator J?
BOM_Manufacturer: Cixi Kefa Elec; Contributor: LCSC; BOM_Supplier: LCSC; BOM_Supplier Part: C577597; BOM_Manufacturer Part: KF2EDGR-2.54-5P; BOM_JLCPCB Part Class: Extended Part; spicePre: C; spiceSymbolName: KF2EDGR-2.54-5P
footprint CONN-TH_KF2EDGR-2.54-5P
pins: 1, 2, 3, 4, 5

## KF2EDGR-2.54-6P
designator J?
BOM_Manufacturer: Cixi Kefa Elec; BOM_Manufacturer Part: KF2EDGR-2.54-5P; Contributor: LCSC; BOM_Supplier: LCSC; BOM_Supplier Part: C577597; BOM_JLCPCB Part Class: Extended Part; spicePre: C; spiceSymbolName: KF2EDGR-2.54-5P
footprint CONN-TH_KF2EDGR-2.54-6P
pins: 1, 2, 3, 4, 5, 6

## KF2EDGR-2.54-8P
designator J?
BOM_Manufacturer: Cixi Kefa Elec; BOM_Manufacturer Part: KF2EDGR-2.54-5P; Contributor: LCSC; BOM_Supplier: LCSC; BOM_Supplier Part: C577597; BOM_JLCPCB Part Class: Extended Part; spicePre: C; spiceSymbolName: KF2EDGR-2.54-5P
footprint CONN-TH_KF2EDGR-2.54-8P
pins: 1, 2, 3, 4, 5, 6, 7, 8

## KF2EDGRH-3.81-2*6P
designator CN?
BOM_Manufacturer: Cixi Kefa Elec; Contributor: LCSC; BOM_Supplier: LCSC; BOM_Supplier Part: C577688; BOM_Manufacturer Part: KF2EDGRH-3.81-2*6P; BOM_JLCPCB Part Class: Extended Part; spicePre: C; spiceSymbolName: KF2EDGRH-3.81-2*6P
footprint CONN-TH_KF2EDGRH-3.81-2-6P
pins: 1, 2, 3, 4, 5, 6, 7, 8, 9, 10, 11, 12

## KF2EDGVC-5.08-4P
designator J?
板端/插座-闭口 1x4P 5.08mm 排数:1 每排P:4
footprint CONN-TH_4P-P5.08_KF2EDGVC-5.08-4P
pins: 1, 2, 3, 4

## KF2EDGVC-5.08-6P
designator J?
板端/插座-闭口 1x6P 5.08mm 排数:1 每排P:6
footprint CONN-TH_6P-P5.08_KF2EDGVC-5.08-6P (KF2EDGVC-5.08-6P)
pins: 1, 2, 3, 4, 5, 6

## KF2EDGVC-5.08-7P
designator J?
板端/插座-闭口 1x7P 5.08mm 排数:1 每排P:7
footprint CONN-TH_7P-P5.08_KF2EDGVC-5.08-7P (KF2EDGVC-5.08-7P)
pins: 1, 2, 3, 4, 5, 6, 7

## KF2EDGVC-5.08-8P
designator J?
板端/插座-闭口 1x8P 5.08mm 排数:1 每排P:8
footprint CONN-TH_8P-P5.08_KF2EDGVC-5.08-8P (KF2EDGVC-5.08-8P)
pins: 1, 2, 3, 4, 5, 6, 7, 8

## KF2EDGVC-5.08-10P
designator J?
板端/插座-闭口 1x10P 5.08mm 排数:1 每排P:10
footprint CONN-TH_10P-P5.08_KF2EDGVC-5.08-10P (KF2EDGVC-5.08-8P)
pins: 1, 2, 3, 4, 5, 6, 7, 8, 9, 10

## KF2EDGVC-5.08-12P
designator J?
板端/插座-闭口 1x12P 5.08mm 排数:1 每排P:12
footprint CONN-TH_12P-P5.08_KF2EDGVC-5.08-12P (KF2EDGVC-5.08-8P)
pins: 1, 2, 3, 4, 5, 6, 7, 8, 9, 10, 11, 12

## KF128-2.54-2P
designator U?
BOM_Manufacturer: Cixi Kefa Elec; BOM_Manufacturer Part: KF128-2.54-4P; Contributor: LCSC; BOM_Supplier: LCSC; BOM_Supplier Part: C474922; BOM_JLCPCB Part Class: Extended Part; spicePre: U; spiceSymbolName: KF128-2.54-4P
footprint CONN-TH_2P_P2.54_KF128-2.54-2P
pins: 1, 2

## KF128-2.54-3P
designator U?
BOM_Manufacturer: Cixi Kefa Elec; BOM_Manufacturer Part: KF128-2.54-4P; Contributor: LCSC; BOM_Supplier: LCSC; BOM_Supplier Part: C474922; BOM_JLCPCB Part Class: Extended Part; spicePre: U; spiceSymbolName: KF128-2.54-4P
footprint CONN-TH_3P_P2.54_KF128-2.54-3P
pins: 1, 2, 3

## KF128-2.54-4P
designator U?
BOM_Manufacturer: Cixi Kefa Elec; Contributor: LCSC; BOM_Supplier: LCSC; BOM_Supplier Part: C474922; BOM_Manufacturer Part: KF128-2.54-4P; BOM_JLCPCB Part Class: Extended Part; spicePre: U; spiceSymbolName: KF128-2.54-4P
footprint CONN-TH_4P-P2.54_KF128-2.54-4P
pins: 1, 2, 3, 4

## KF128-2.54-5P
designator U?
BOM_Manufacturer: Cixi Kefa Elec; Contributor: LCSC; BOM_Supplier: LCSC; BOM_Supplier Part: C474923; BOM_Manufacturer Part: KF128-2.54-5P; BOM_JLCPCB Part Class: Extended Part; spicePre: U; spiceSymbolName: KF128-2.54-5P
footprint CONN-TH_5P-P2.54_KF128-2.54-5P
pins: 1, 2, 3, 4, 5

## KF128-2.54-6P
designator U?
BOM_Manufacturer: Cixi Kefa Elec; BOM_Manufacturer Part: KF128-2.54-5P; Contributor: LCSC; BOM_Supplier: LCSC; BOM_Supplier Part: C474923; BOM_JLCPCB Part Class: Extended Part; spicePre: U; spiceSymbolName: KF128-2.54-5P
footprint CONN-TH_6P-P2.54_KF128-2.54-6P
pins: 1, 2, 3, 4, 5, 6

## KF128-2.54-8P
designator U?
BOM_Manufacturer: Cixi Kefa Elec; BOM_Manufacturer Part: KF128-2.54-5P; Contributor: LCSC; BOM_Supplier: LCSC; BOM_Supplier Part: C474923; BOM_JLCPCB Part Class: Extended Part; spicePre: U; spiceSymbolName: KF128-2.54-5P
footprint CONN-TH_8P-P2.54_KF128-2.54-8P (Footprint not found)
pins: 1, 2, 3, 4, 5, 6, 7, 8

## KH-AF180ZJ-10
designator USB?
BOM_Manufacturer: kinghelm(金航标); Contributor: LCSC; BOM_Supplier: LCSC; BOM_Supplier Part: C2833339; BOM_Manufacturer Part: KH-AF180ZJ-10; BOM_JLCPCB Part Class: Extended Part; spicePre: U; spiceSymbolName: KH-AF180ZJ-10
footprint USB-A-TH_KH-AF180ZJ-10
pins: 1 VCC, 2 D-, 3 D+, 4 GND, 5 SHLD, 6 SHLD

## M1250RS-10P
designator CN?
1.25mm 10P 卧贴; BOM_Manufacturer: XFCN(台湾兴飞); Contributor: LCSC; BOM_Supplier: LCSC; BOM_Supplier Part: C2935455; BOM_Manufacturer Part: M1250RS-10P; spicePre: C; spiceSymbolName: M1250RS-10P
footprint M1250RS-10P
pins: 1, 2, 3, 4, 5, 6, 7, 8, 9, 10, 11, 12

## M1250VS-03P
designator CN?
1.25mm 3P 立贴; BOM_Manufacturer: XFCN(台湾兴飞); BOM_Manufacturer Part: M1250RS-10P; Contributor: LCSC; BOM_Supplier: LCSC; BOM_Supplier Part: C2935455; spicePre: C; spiceSymbolName: M1250RS-10P
footprint M1250VS-03P
pins: 1, 2, 3, 4, 5

## M1250VS-10P
designator CN?
1.25mm 10P 立贴; BOM_Manufacturer: XFCN(台湾兴飞); BOM_Manufacturer Part: M1250RS-10P; Contributor: LCSC; BOM_Supplier: LCSC; BOM_Supplier Part: C2935455; spicePre: C; spiceSymbolName: M1250RS-10P
footprint M1250VS-10P (Footprint not found)
pins: 1, 2, 3, 4, 5, 6, 7, 8, 9, 10, 11, 12

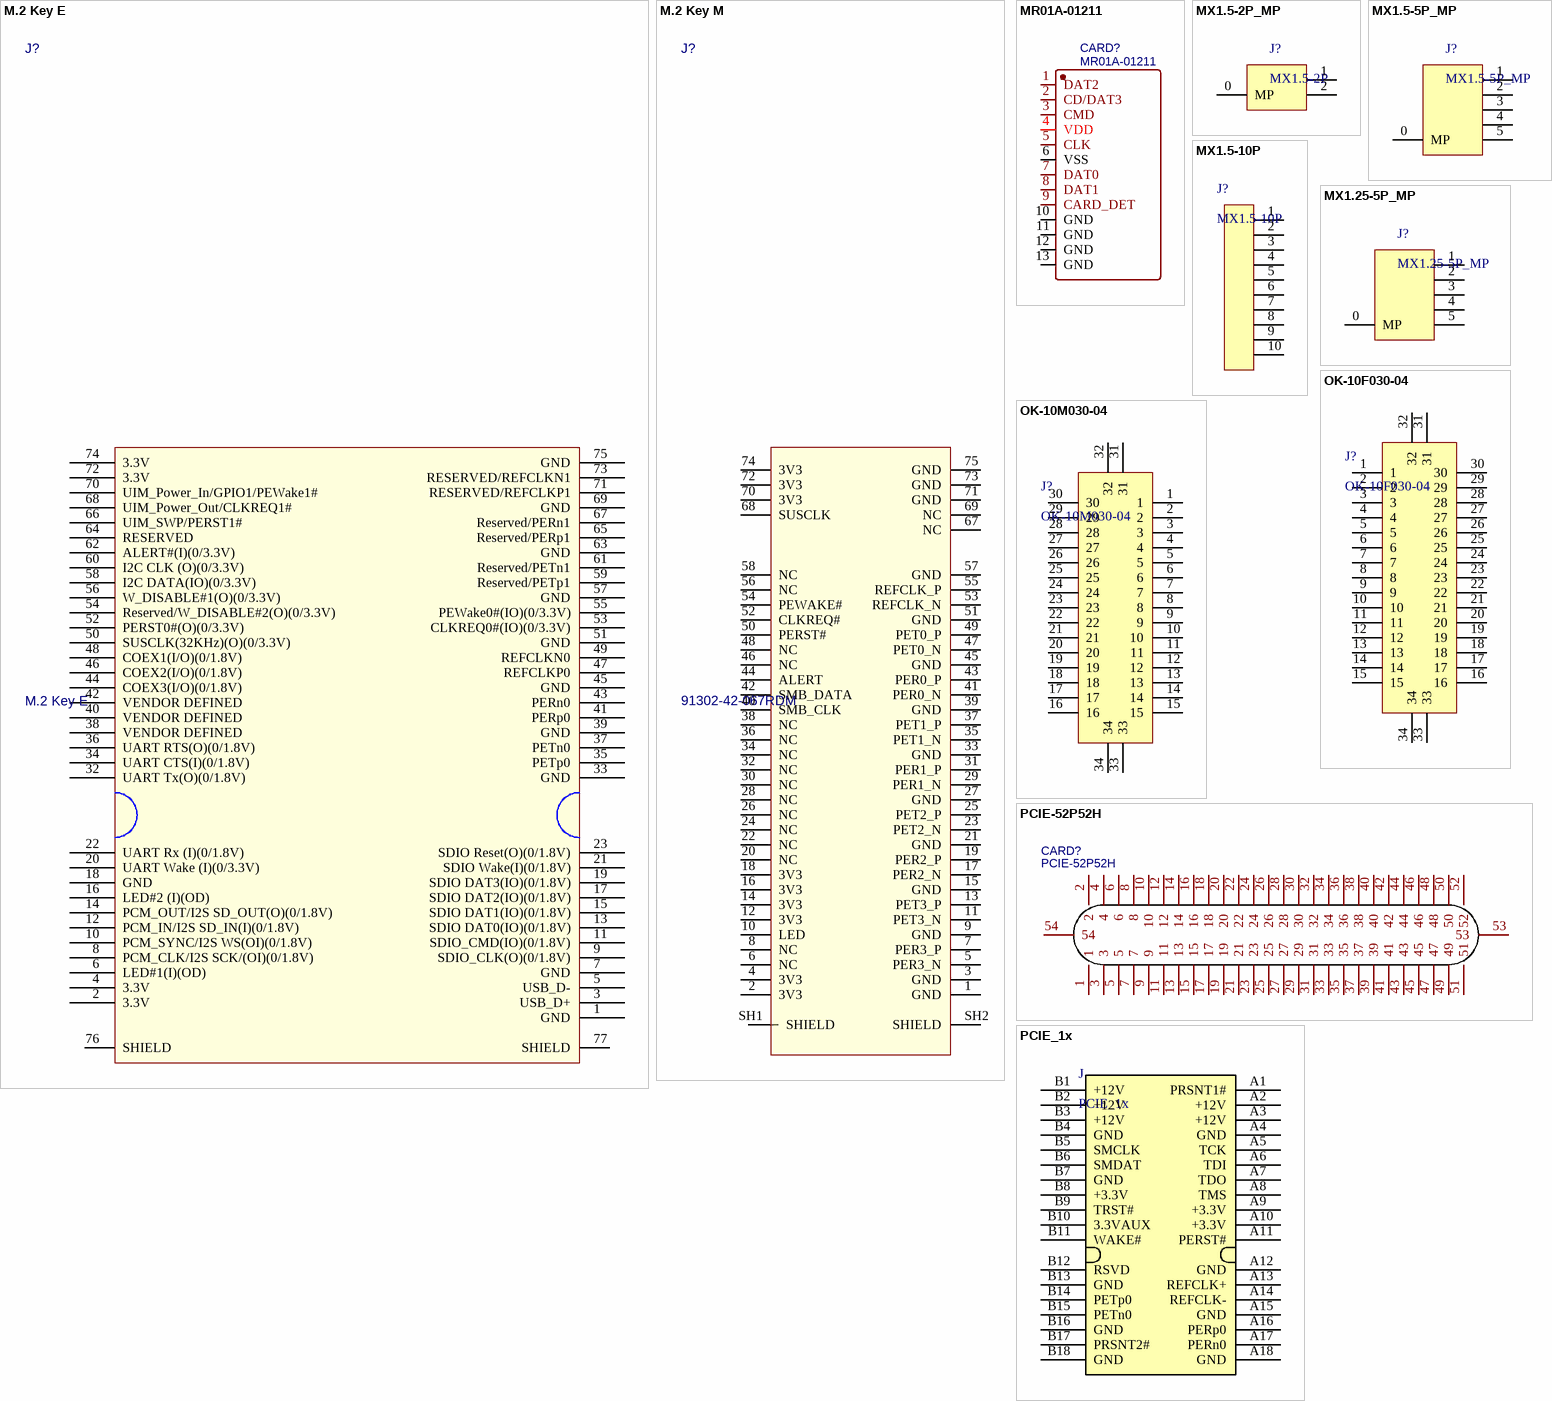
[diagram p9: symbols M.2 Key E to PCIE_1x]

## M.2 Key E
designator J?
footprint PCIE-SMD_KEY-E
pins: 1 GND, 2 3.3V, 3 USB_D+, 4 3.3V, 5 USB_D-, 6 LED#1(I)(OD), 7 GND, 8 PCM_CLK/I2S SCK/(OI)(0/1.8V), 9 SDIO_CLK(O)(0/1.8V), 10 PCM_SYNC/I2S WS(OI)(0/1.8V), 11 SDIO_CMD(IO)(0/1.8V), 12 PCM_IN/I2S SD_IN(I)(0/1.8V), 13 SDIO DAT0(IO)(0/1.8V), 14 PCM_OUT/I2S SD_OUT(O)(0/1.8V), 15 SDIO DAT1(IO)(0/1.8V), 16 LED#2 (I)(OD), 17 SDIO DAT2(IO)(0/1.8V), 18 GND, 19 SDIO DAT3(IO)(0/1.8V), 20 UART Wake (I)(0/3.3V), 21 SDIO Wake(I)(0/1.8V), 22 UART Rx (I)(0/1.8V), 23 SDIO Reset(O)(0/1.8V), 32 UART Tx(O)(0/1.8V), 33 GND, 34 UART CTS(I)(0/1.8V), 35 PETp0, 36 UART RTS(O)(0/1.8V), 37 PETn0, 38 VENDOR DEFINED, 39 GND, 40 VENDOR DEFINED, 41 PERp0, 42 VENDOR DEFINED, 43 PERn0, 44 COEX3(I/O)(0/1.8V), 45 GND, 46 COEX2(I/O)(0/1.8V), 47 REFCLKP0, 48 COEX1(I/O)(0/1.8V), 49 REFCLKN0, 50 SUSCLK(32KHz)(O)(0/3.3V), 51 GND, 52 PERST0#(O)(0/3.3V), 53 CLKREQ0#(IO)(0/3.3V), 54 Reserved/W_DISABLE#2(O)(0/3.3V), 55 PEWake0#(IO)(0/3.3V), 56 W_DISABLE#1(O)(0/3.3V), 57 GND, 58 I2C DATA(IO)(0/3.3V), 59 Reserved/PETp1, 60 I2C CLK (O)(0/3.3V), 61 Reserved/PETn1, 62 ALERT#(I)(0/3.3V), 63 GND, 64 RESERVED, 65 Reserved/PERp1, 66 UIM_SWP/PERST1#, 67 Reserved/PERn1, 68 UIM_Power_Out/CLKREQ1#, 69 GND, 70 UIM_Power_In/GPIO1/PEWake1#, 71 RESERVED/REFCLKP1, 72 3.3V, 73 RESERVED/REFCLKN1, 74 3.3V, 75 GND, 76 SHIELD, 77 SHIELD

## M.2 Key M
designator J?, comment 91302-42-067RDM
M.2 Key M
footprint MDT580M01001
footprint PCIE-SMD_KEY-M
pins: 1 GND, 2 3V3, 3 GND, 4 3V3, 5 PER3_N, 6 NC, 7 PER3_P, 8 NC, 9 GND, 10 LED, 11 PET3_N, 12 3V3, 13 PET3_P, 14 3V3, 15 GND, 16 3V3, 17 PER2_N, 18 3V3, 19 PER2_P, 20 NC, 21 GND, 22 NC, 23 PET2_N, 24 NC, 25 PET2_P, 26 NC, 27 GND, 28 NC, 29 PER1_N, 30 NC, 31 PER1_P, 32 NC, 33 GND, 34 NC, 35 PET1_N, 36 NC, 37 PET1_P, 38 NC, 39 GND, 40 SMB_CLK, 41 PER0_N, 42 SMB_DATA, 43 PER0_P, 44 ALERT, 45 GND, 46 NC, 47 PET0_N, 48 NC, 49 PET0_P, 50 PERST#, 51 GND, 52 CLKREQ#, 53 REFCLK_N, 54 PEWAKE#, 55 REFCLK_P, 56 NC, 57 GND, 58 NC, 67 NC, 68 SUSCLK, 69 NC, 70 3V3, 71 GND, 72 3V3, 73 GND, 74 3V3, 75 GND, SH1 SHIELD, SH2 SHIELD